# Altium integrated library con-molex.IntLib: 368 symbols (part 6 of 6)

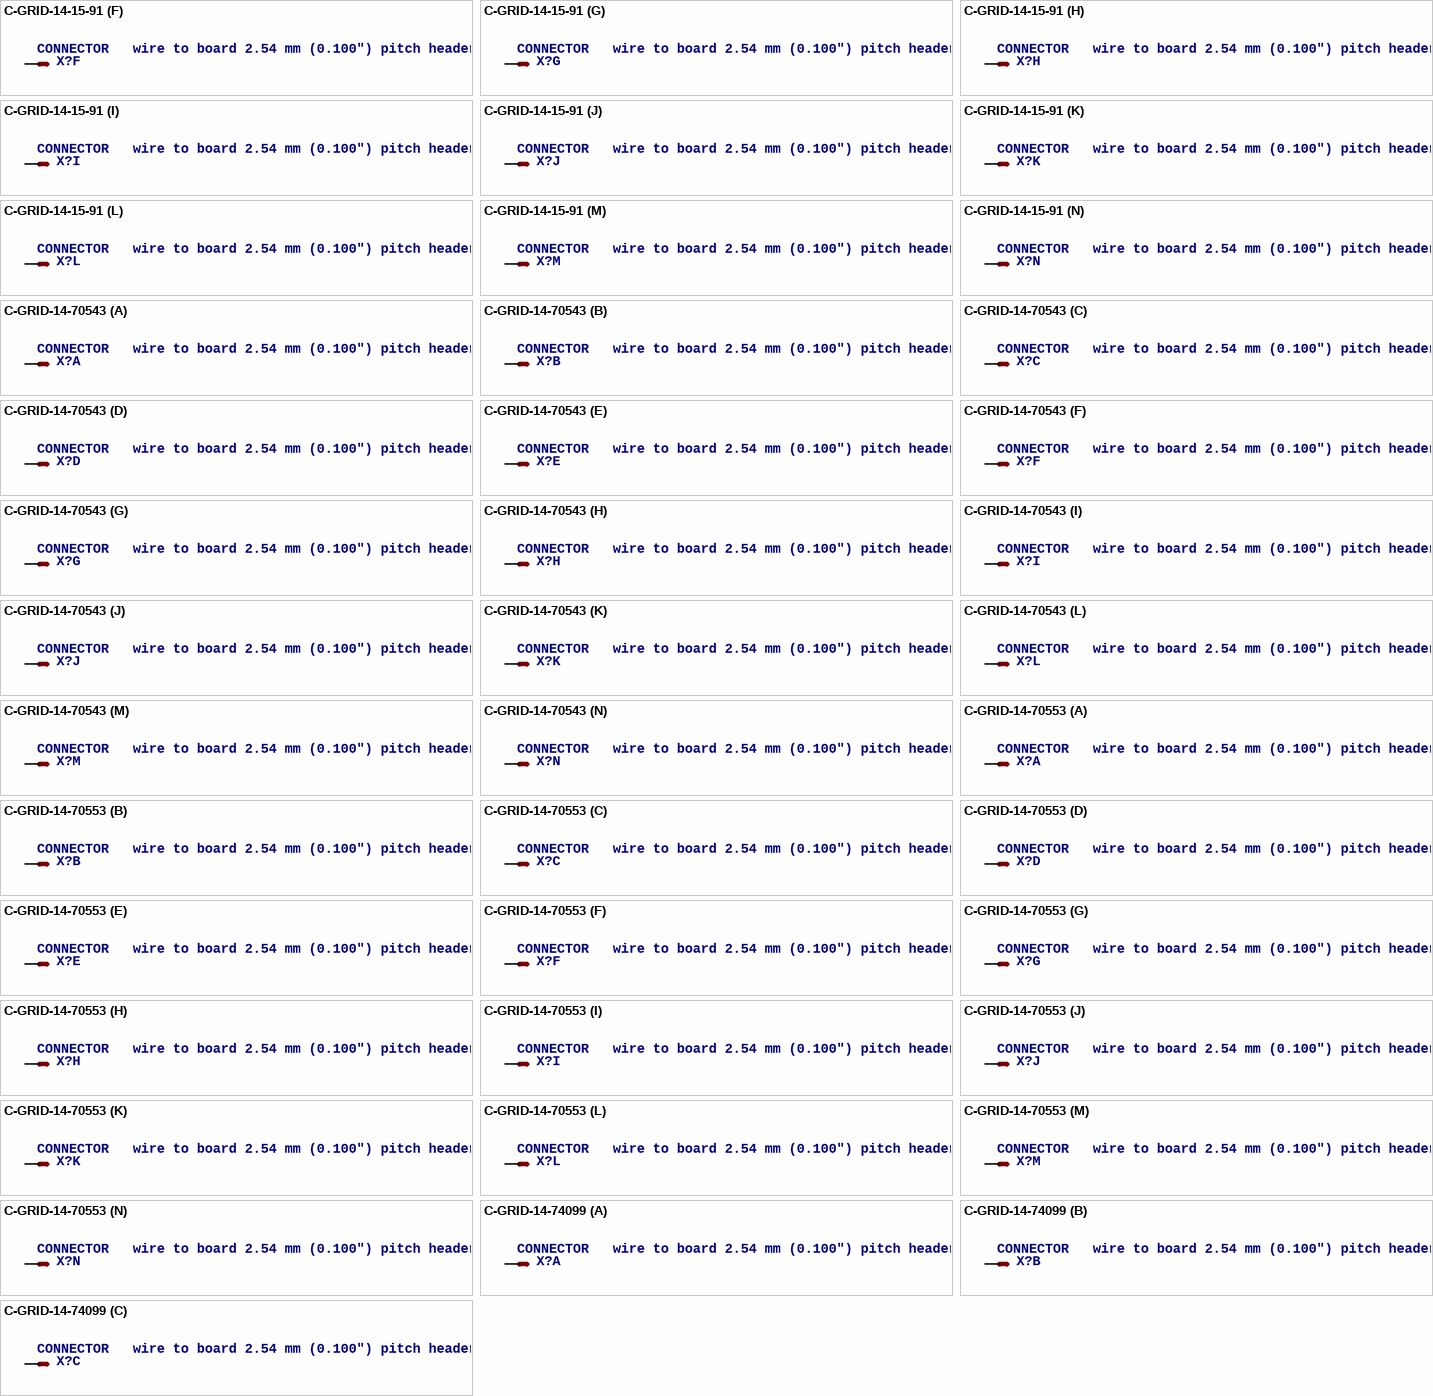
[diagram p115: symbols C-GRID-14-15-91 to C-GRID-14-74099]

## C-GRID-14-15-91
designator X?, comment CONNECTOR   wire to board 2.54 mm (0.100") pitch header
OC_FARNELL: unknown; OC_NEWARK: unknown
footprint 15-91-14
part A pins: 1 S
part B pins: 2 S
part C pins: 3 S
part D pins: 4 S
part E pins: 5 S
part F pins: 6 S
part G pins: 7 S
part H pins: 8 S
part I pins: 9 S
part J pins: 10 S
part K pins: 11 S
part L pins: 12 S
part M pins: 13 S
part N pins: 14 S

## C-GRID-14-70543
designator X?, comment CONNECTOR   wire to board 2.54 mm (0.100") pitch header
OC_FARNELL: unknown; OC_NEWARK: unknown
footprint 70543-14
part A pins: 1 S
part B pins: 2 S
part C pins: 3 S
part D pins: 4 S
part E pins: 5 S
part F pins: 6 S
part G pins: 7 S
part H pins: 8 S
part I pins: 9 S
part J pins: 10 S
part K pins: 11 S
part L pins: 12 S
part M pins: 13 S
part N pins: 14 S

## C-GRID-14-70553
designator X?, comment CONNECTOR   wire to board 2.54 mm (0.100") pitch header
OC_FARNELL: unknown; OC_NEWARK: unknown
footprint 70553-14
part A pins: 1 S
part B pins: 2 S
part C pins: 3 S
part D pins: 4 S
part E pins: 5 S
part F pins: 6 S
part G pins: 7 S
part H pins: 8 S
part I pins: 9 S
part J pins: 10 S
part K pins: 11 S
part L pins: 12 S
part M pins: 13 S
part N pins: 14 S

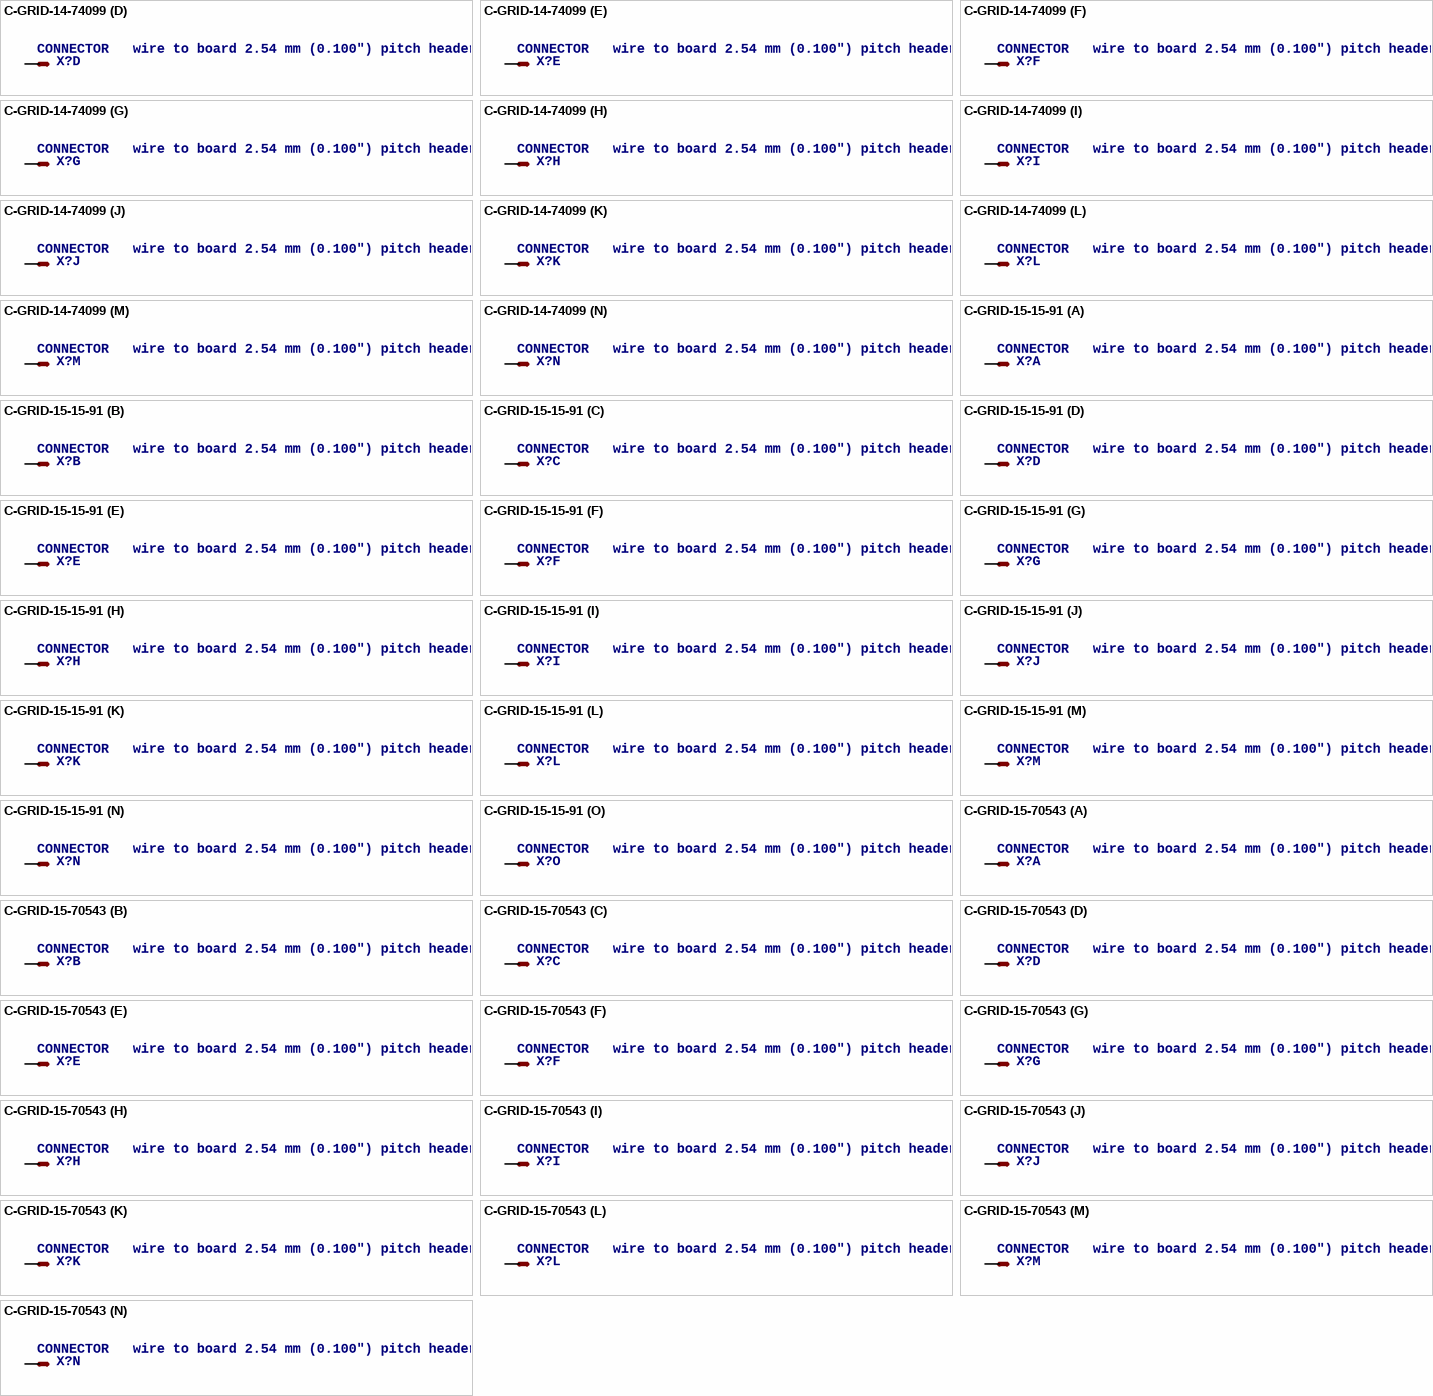
[diagram p116: symbols C-GRID-14-74099 to C-GRID-15-70543]

## C-GRID-14-74099
designator X?, comment CONNECTOR   wire to board 2.54 mm (0.100") pitch header
OC_FARNELL: unknown; OC_NEWARK: unknown
footprint 74099-14
part A pins: 1 S
part B pins: 2 S
part C pins: 3 S
part D pins: 4 S
part E pins: 5 S
part F pins: 6 S
part G pins: 7 S
part H pins: 8 S
part I pins: 9 S
part J pins: 10 S
part K pins: 11 S
part L pins: 12 S
part M pins: 13 S
part N pins: 14 S

## C-GRID-15-15-91
designator X?, comment CONNECTOR   wire to board 2.54 mm (0.100") pitch header
OC_FARNELL: unknown; OC_NEWARK: unknown
footprint 15-91-15
part A pins: 1 S
part B pins: 2 S
part C pins: 3 S
part D pins: 4 S
part E pins: 5 S
part F pins: 6 S
part G pins: 7 S
part H pins: 8 S
part I pins: 9 S
part J pins: 10 S
part K pins: 11 S
part L pins: 12 S
part M pins: 13 S
part N pins: 14 S
part O pins: 15 S

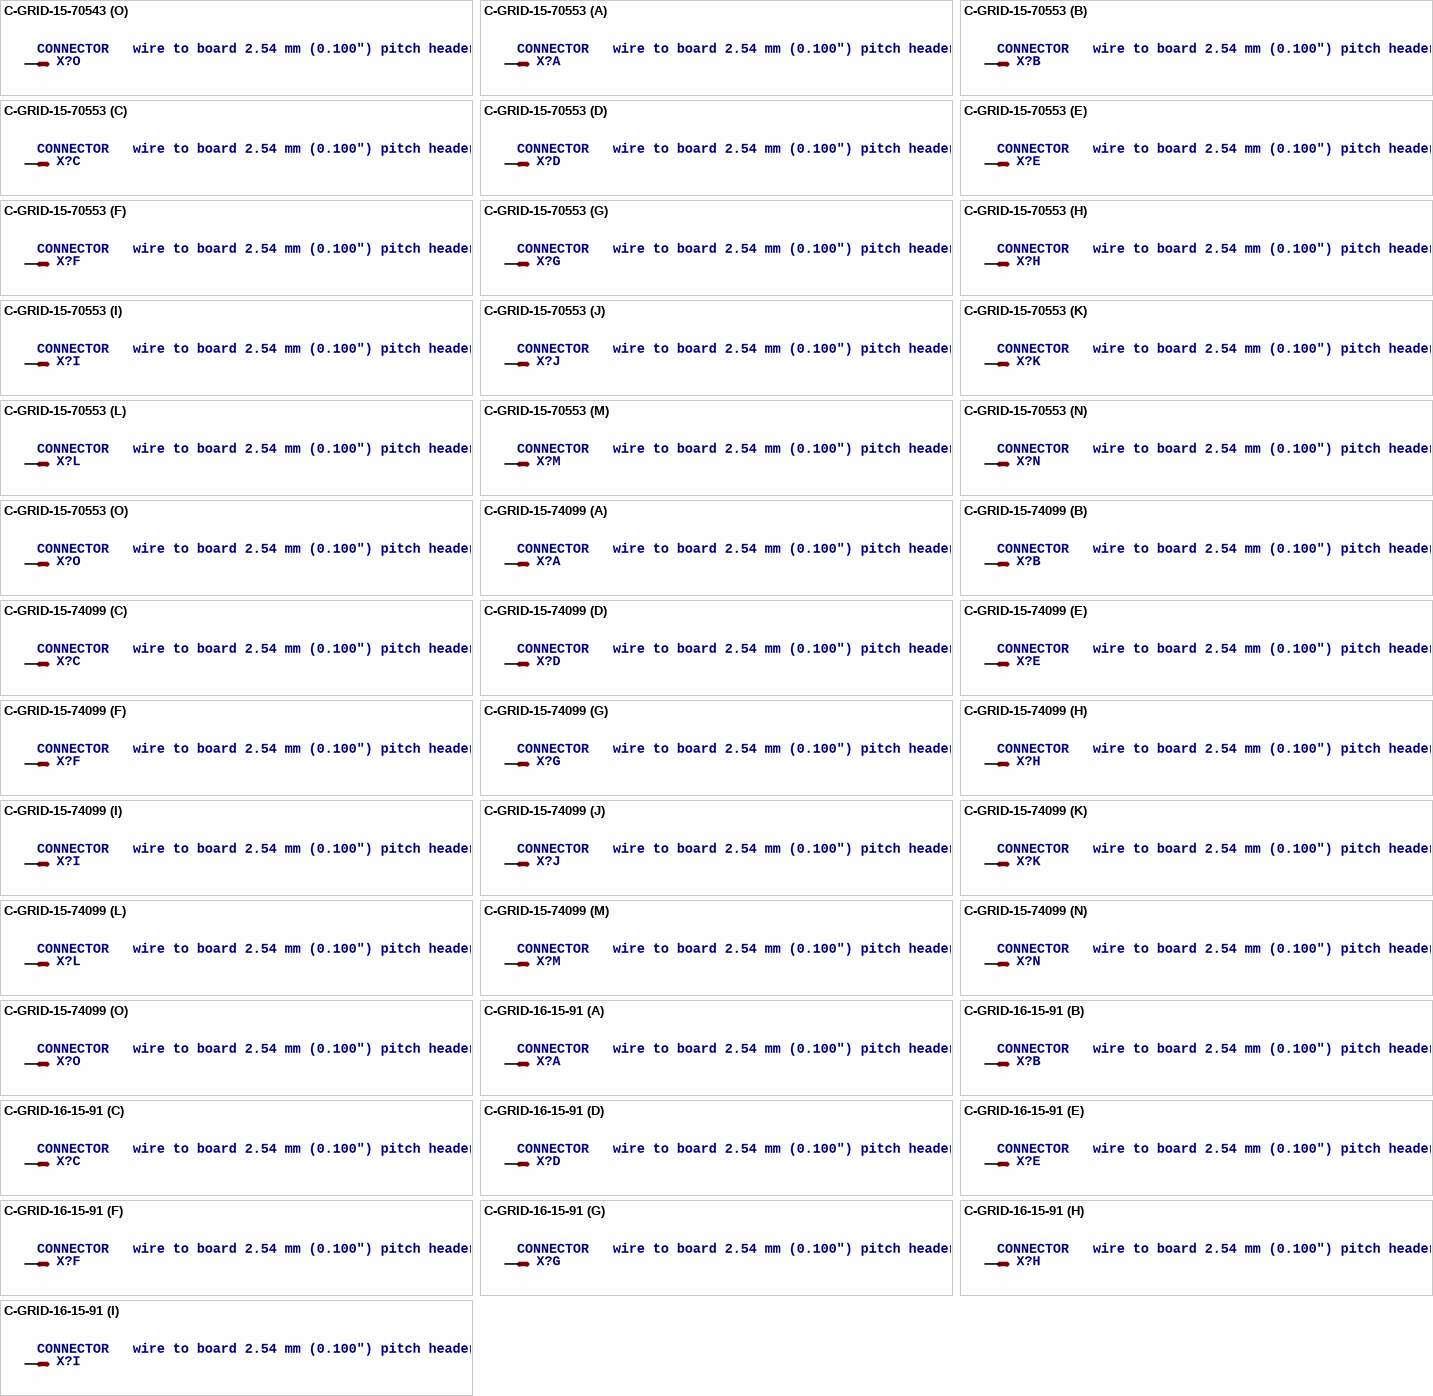
[diagram p117: symbols C-GRID-15-70543 to C-GRID-16-15-91]

## C-GRID-15-70543
designator X?, comment CONNECTOR   wire to board 2.54 mm (0.100") pitch header
OC_FARNELL: unknown; OC_NEWARK: unknown
footprint 70543-15
part A pins: 1 S
part B pins: 2 S
part C pins: 3 S
part D pins: 4 S
part E pins: 5 S
part F pins: 6 S
part G pins: 7 S
part H pins: 8 S
part I pins: 9 S
part J pins: 10 S
part K pins: 11 S
part L pins: 12 S
part M pins: 13 S
part N pins: 14 S
part O pins: 15 S

## C-GRID-15-70553
designator X?, comment CONNECTOR   wire to board 2.54 mm (0.100") pitch header
OC_FARNELL: unknown; OC_NEWARK: unknown
footprint 70553-15
part A pins: 1 S
part B pins: 2 S
part C pins: 3 S
part D pins: 4 S
part E pins: 5 S
part F pins: 6 S
part G pins: 7 S
part H pins: 8 S
part I pins: 9 S
part J pins: 10 S
part K pins: 11 S
part L pins: 12 S
part M pins: 13 S
part N pins: 14 S
part O pins: 15 S

## C-GRID-15-74099
designator X?, comment CONNECTOR   wire to board 2.54 mm (0.100") pitch header
OC_FARNELL: unknown; OC_NEWARK: unknown
footprint 74099-15
part A pins: 1 S
part B pins: 2 S
part C pins: 3 S
part D pins: 4 S
part E pins: 5 S
part F pins: 6 S
part G pins: 7 S
part H pins: 8 S
part I pins: 9 S
part J pins: 10 S
part K pins: 11 S
part L pins: 12 S
part M pins: 13 S
part N pins: 14 S
part O pins: 15 S

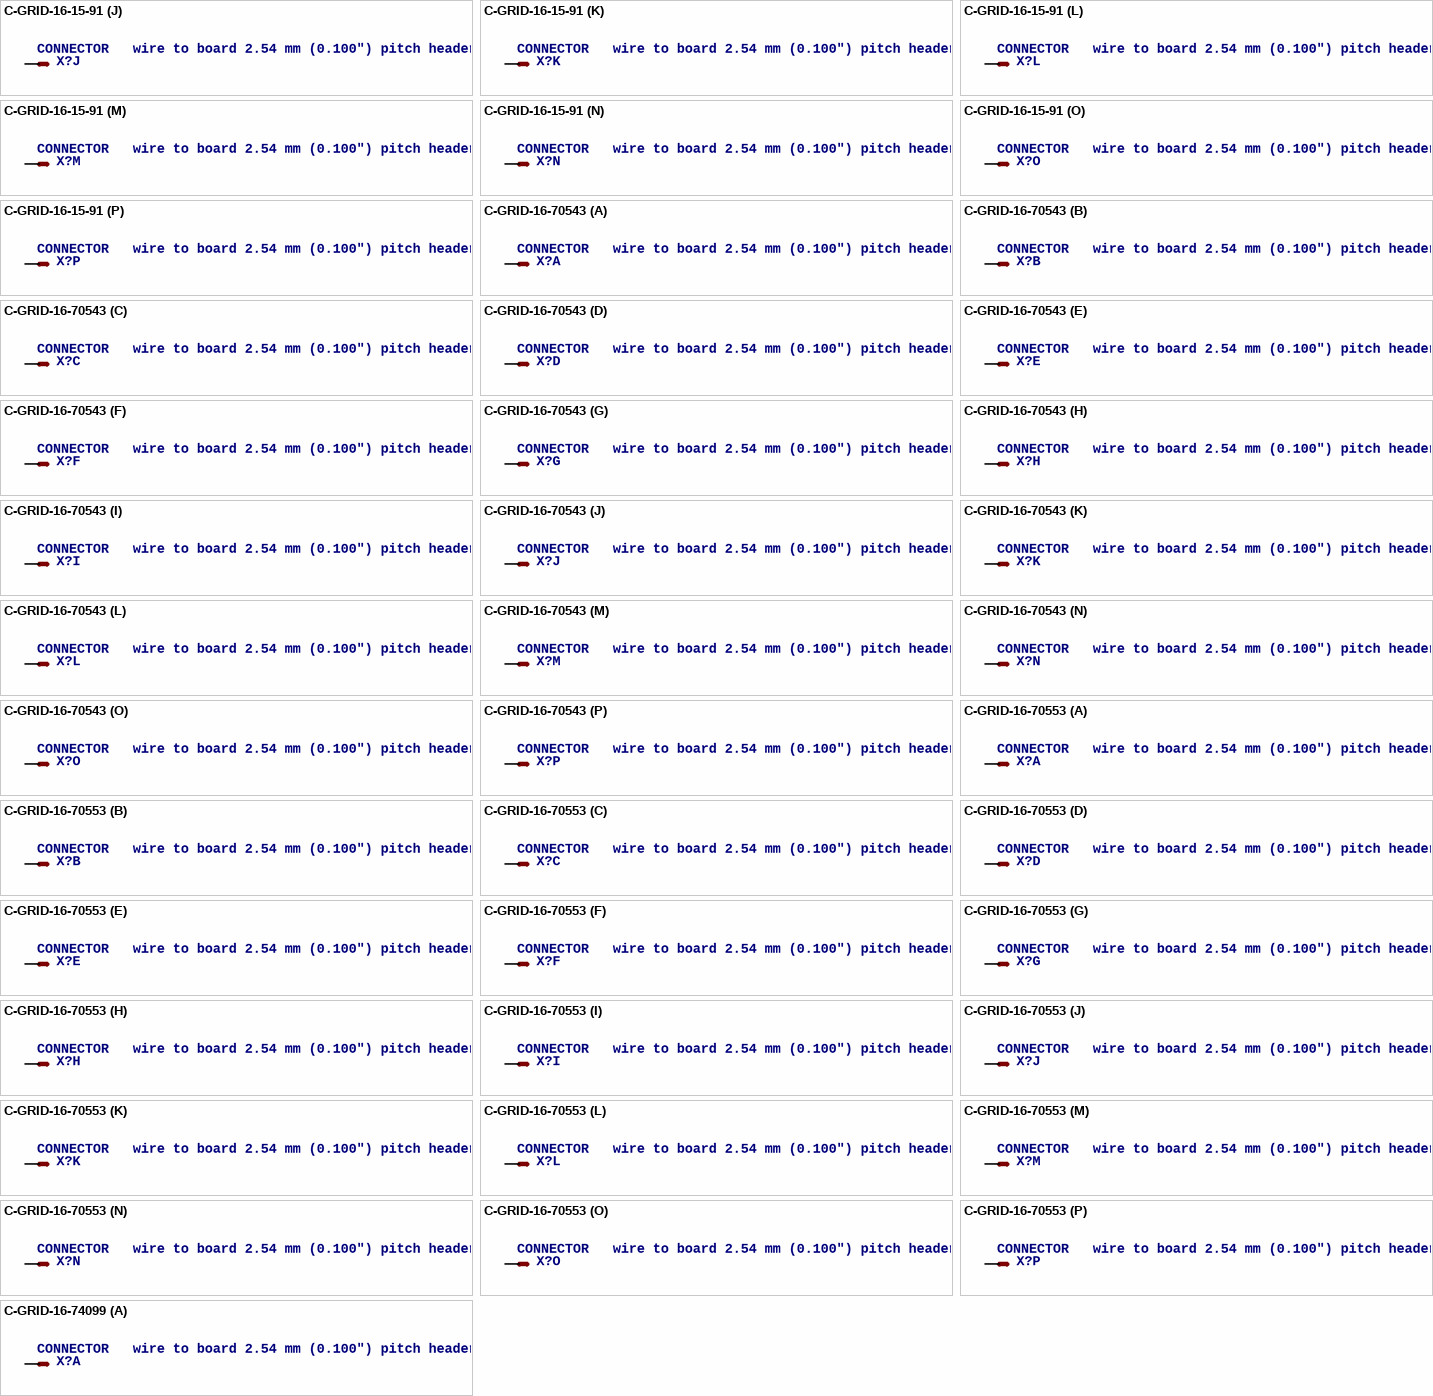
[diagram p118: symbols C-GRID-16-15-91 to C-GRID-16-74099]

## C-GRID-16-15-91
designator X?, comment CONNECTOR   wire to board 2.54 mm (0.100") pitch header
OC_FARNELL: unknown; OC_NEWARK: unknown
footprint 15-91-16
part A pins: 1 S
part B pins: 2 S
part C pins: 3 S
part D pins: 4 S
part E pins: 5 S
part F pins: 6 S
part G pins: 7 S
part H pins: 8 S
part I pins: 9 S
part J pins: 10 S
part K pins: 11 S
part L pins: 12 S
part M pins: 13 S
part N pins: 14 S
part O pins: 15 S
part P pins: 16 S

## C-GRID-16-70543
designator X?, comment CONNECTOR   wire to board 2.54 mm (0.100") pitch header
OC_FARNELL: unknown; OC_NEWARK: unknown
footprint 70543-16
part A pins: 1 S
part B pins: 2 S
part C pins: 3 S
part D pins: 4 S
part E pins: 5 S
part F pins: 6 S
part G pins: 7 S
part H pins: 8 S
part I pins: 9 S
part J pins: 10 S
part K pins: 11 S
part L pins: 12 S
part M pins: 13 S
part N pins: 14 S
part O pins: 15 S
part P pins: 16 S

## C-GRID-16-70553
designator X?, comment CONNECTOR   wire to board 2.54 mm (0.100") pitch header
OC_FARNELL: unknown; OC_NEWARK: unknown
footprint 70553-16
part A pins: 1 S
part B pins: 2 S
part C pins: 3 S
part D pins: 4 S
part E pins: 5 S
part F pins: 6 S
part G pins: 7 S
part H pins: 8 S
part I pins: 9 S
part J pins: 10 S
part K pins: 11 S
part L pins: 12 S
part M pins: 13 S
part N pins: 14 S
part O pins: 15 S
part P pins: 16 S

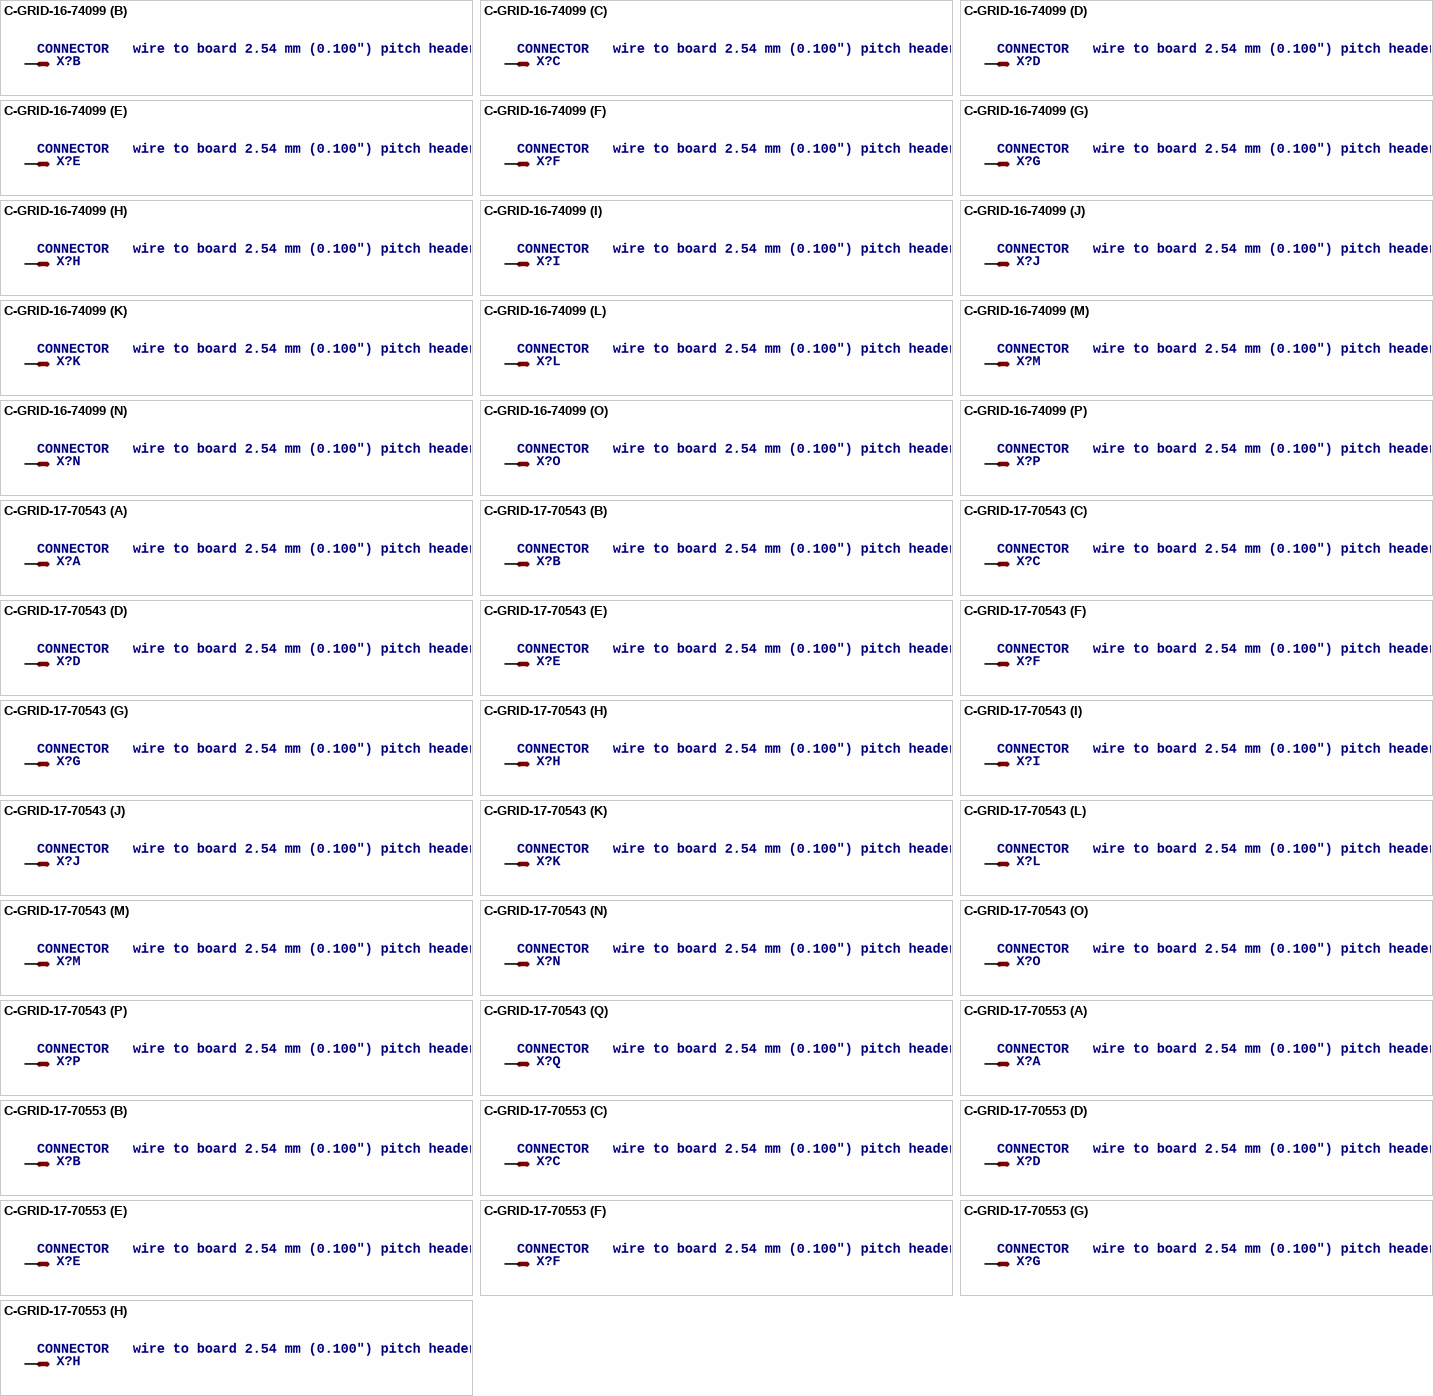
[diagram p119: symbols C-GRID-16-74099 to C-GRID-17-70553]

## C-GRID-16-74099
designator X?, comment CONNECTOR   wire to board 2.54 mm (0.100") pitch header
OC_FARNELL: unknown; OC_NEWARK: unknown
footprint 74099-16
part A pins: 1 S
part B pins: 2 S
part C pins: 3 S
part D pins: 4 S
part E pins: 5 S
part F pins: 6 S
part G pins: 7 S
part H pins: 8 S
part I pins: 9 S
part J pins: 10 S
part K pins: 11 S
part L pins: 12 S
part M pins: 13 S
part N pins: 14 S
part O pins: 15 S
part P pins: 16 S

## C-GRID-17-70543
designator X?, comment CONNECTOR   wire to board 2.54 mm (0.100") pitch header
OC_FARNELL: unknown; OC_NEWARK: unknown
footprint 70543-17
part A pins: 1 S
part B pins: 2 S
part C pins: 3 S
part D pins: 4 S
part E pins: 5 S
part F pins: 6 S
part G pins: 7 S
part H pins: 8 S
part I pins: 9 S
part J pins: 10 S
part K pins: 11 S
part L pins: 12 S
part M pins: 13 S
part N pins: 14 S
part O pins: 15 S
part P pins: 16 S
part Q pins: 17 S

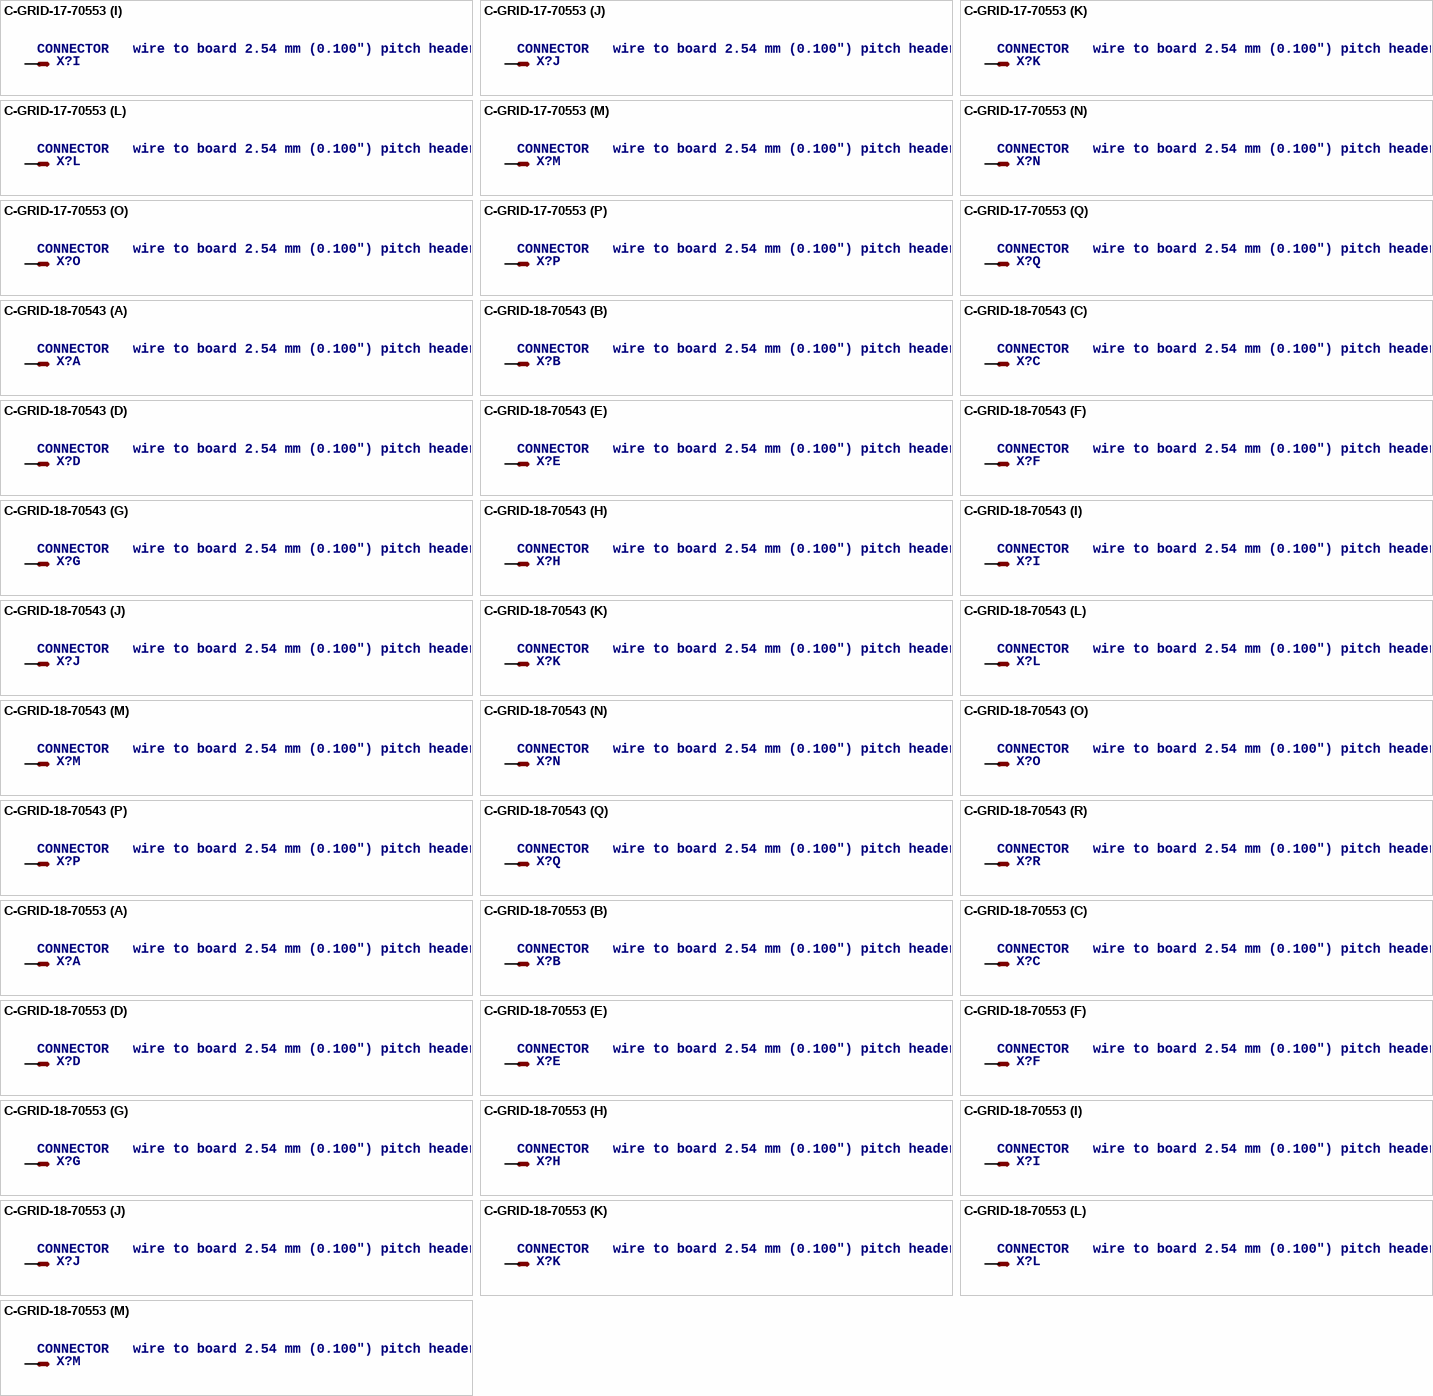
[diagram p120: symbols C-GRID-17-70553 to C-GRID-18-70553]

## C-GRID-17-70553
designator X?, comment CONNECTOR   wire to board 2.54 mm (0.100") pitch header
OC_FARNELL: unknown; OC_NEWARK: unknown
footprint 70553-17
part A pins: 1 S
part B pins: 2 S
part C pins: 3 S
part D pins: 4 S
part E pins: 5 S
part F pins: 6 S
part G pins: 7 S
part H pins: 8 S
part I pins: 9 S
part J pins: 10 S
part K pins: 11 S
part L pins: 12 S
part M pins: 13 S
part N pins: 14 S
part O pins: 15 S
part P pins: 16 S
part Q pins: 17 S

## C-GRID-18-70543
designator X?, comment CONNECTOR   wire to board 2.54 mm (0.100") pitch header
OC_FARNELL: unknown; OC_NEWARK: unknown
footprint 70543-18
part A pins: 1 S
part B pins: 2 S
part C pins: 3 S
part D pins: 4 S
part E pins: 5 S
part F pins: 6 S
part G pins: 7 S
part H pins: 8 S
part I pins: 9 S
part J pins: 10 S
part K pins: 11 S
part L pins: 12 S
part M pins: 13 S
part N pins: 14 S
part O pins: 15 S
part P pins: 16 S
part Q pins: 17 S
part R pins: 18 S

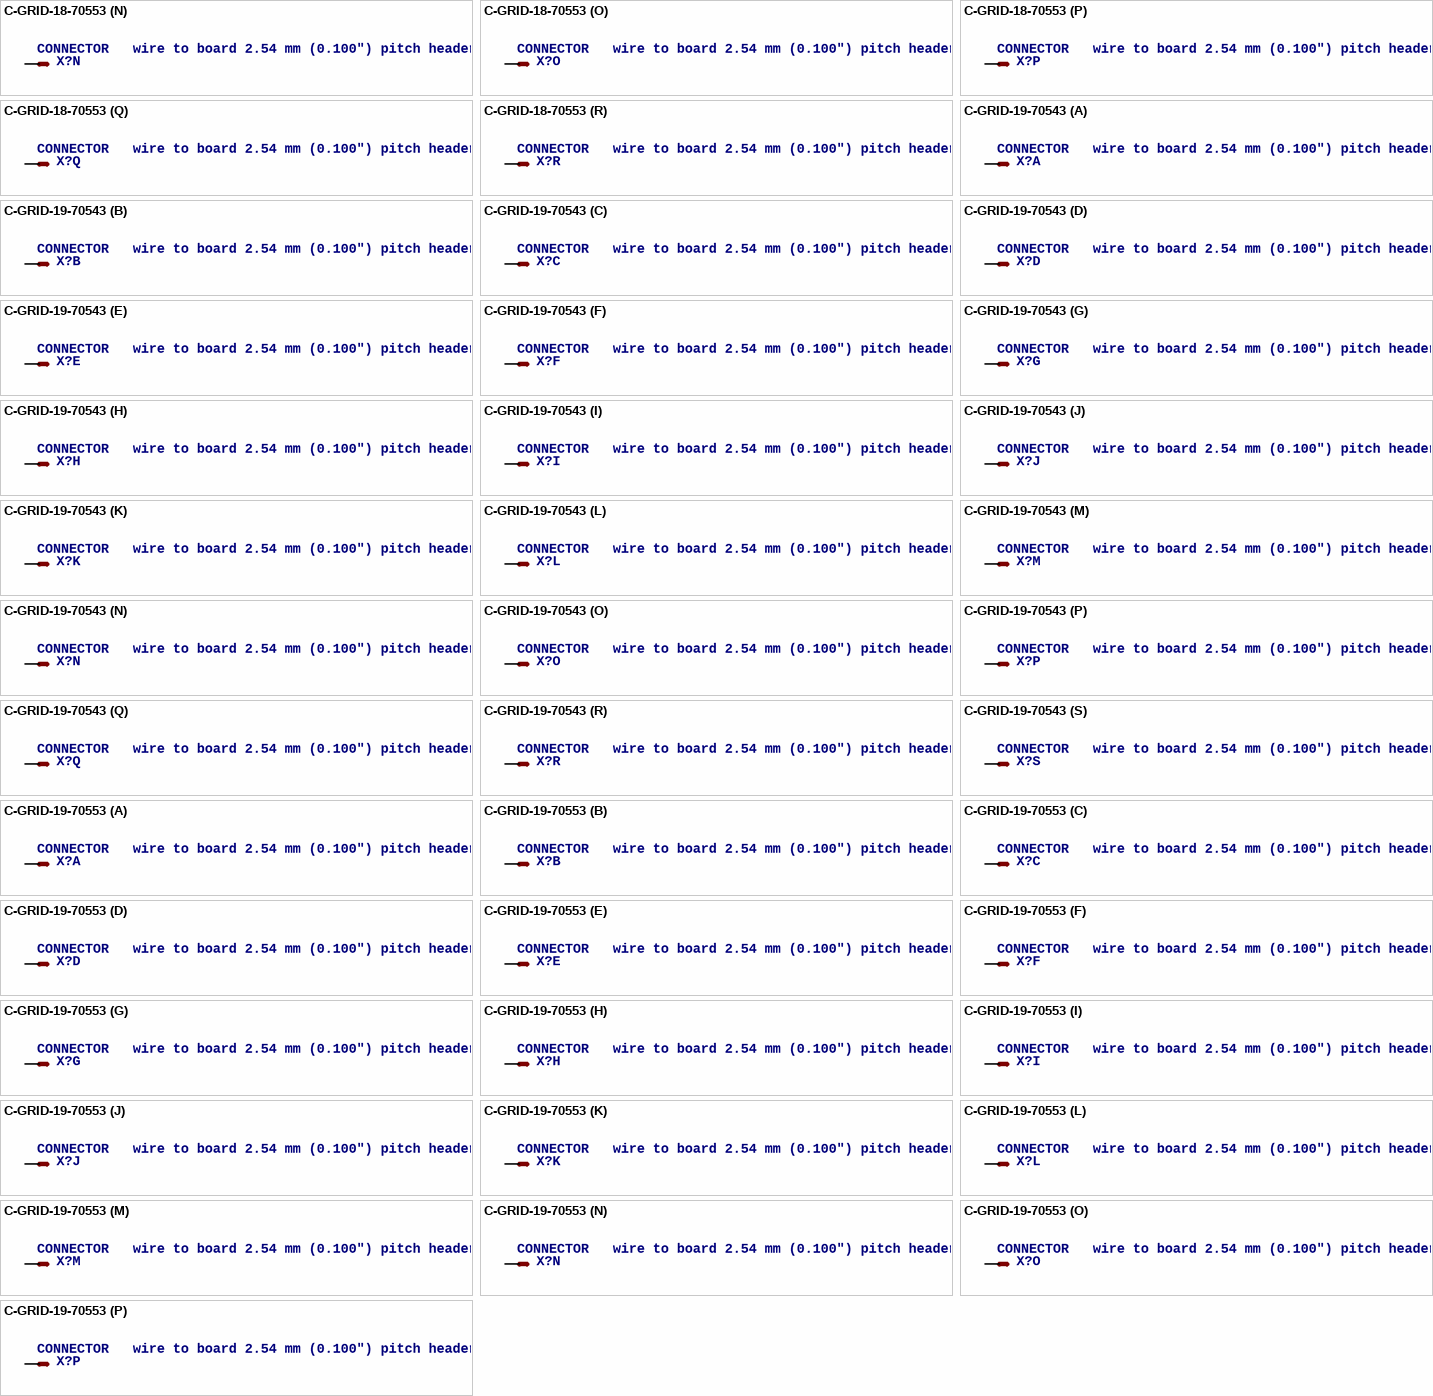
[diagram p121: symbols C-GRID-18-70553 to C-GRID-19-70553]

## C-GRID-18-70553
designator X?, comment CONNECTOR   wire to board 2.54 mm (0.100") pitch header
OC_FARNELL: unknown; OC_NEWARK: unknown
footprint 70553-18
part A pins: 1 S
part B pins: 2 S
part C pins: 3 S
part D pins: 4 S
part E pins: 5 S
part F pins: 6 S
part G pins: 7 S
part H pins: 8 S
part I pins: 9 S
part J pins: 10 S
part K pins: 11 S
part L pins: 12 S
part M pins: 13 S
part N pins: 14 S
part O pins: 15 S
part P pins: 16 S
part Q pins: 17 S
part R pins: 18 S

## C-GRID-19-70543
designator X?, comment CONNECTOR   wire to board 2.54 mm (0.100") pitch header
OC_FARNELL: unknown; OC_NEWARK: unknown
footprint 70543-19
part A pins: 1 S
part B pins: 2 S
part C pins: 3 S
part D pins: 4 S
part E pins: 5 S
part F pins: 6 S
part G pins: 7 S
part H pins: 8 S
part I pins: 9 S
part J pins: 10 S
part K pins: 11 S
part L pins: 12 S
part M pins: 13 S
part N pins: 14 S
part O pins: 15 S
part P pins: 16 S
part Q pins: 17 S
part R pins: 18 S
part S pins: 19 S

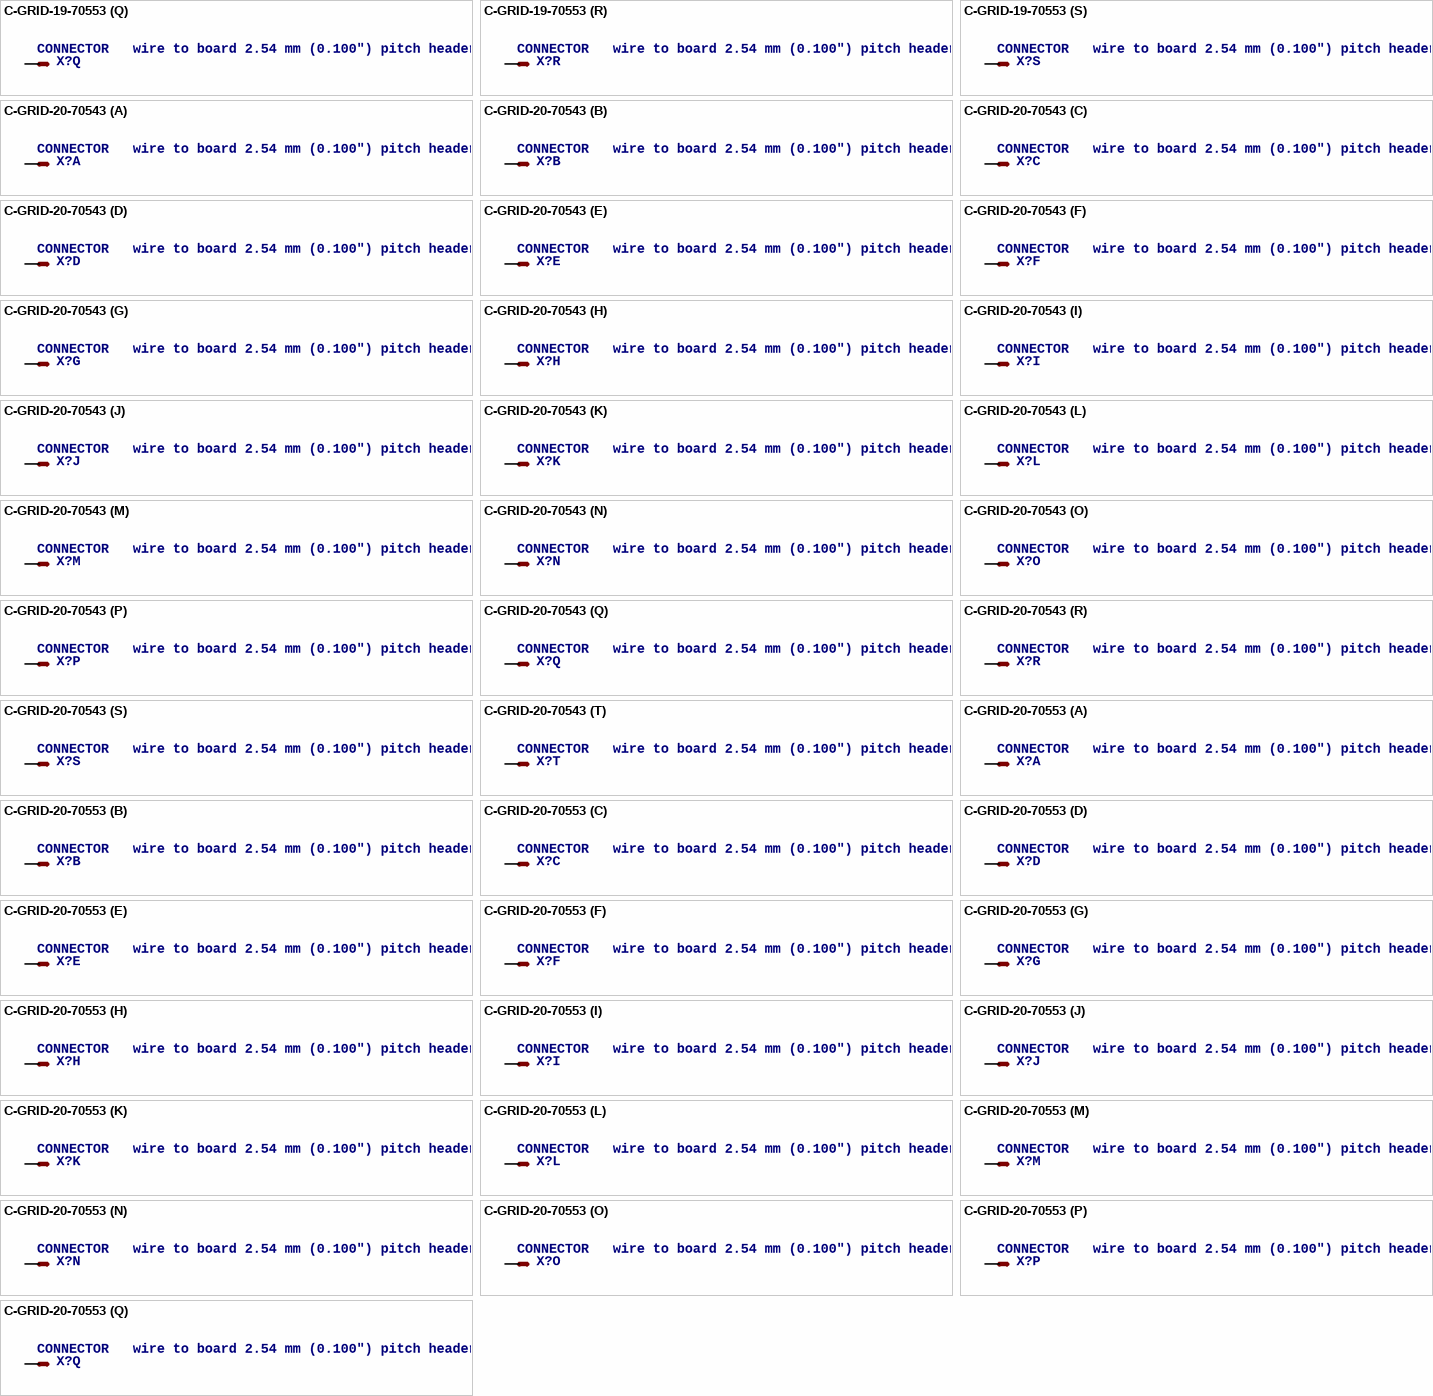
[diagram p122: symbols C-GRID-19-70553 to C-GRID-20-70553]

## C-GRID-19-70553
designator X?, comment CONNECTOR   wire to board 2.54 mm (0.100") pitch header
OC_FARNELL: unknown; OC_NEWARK: unknown
footprint 70553-19
part A pins: 1 S
part B pins: 2 S
part C pins: 3 S
part D pins: 4 S
part E pins: 5 S
part F pins: 6 S
part G pins: 7 S
part H pins: 8 S
part I pins: 9 S
part J pins: 10 S
part K pins: 11 S
part L pins: 12 S
part M pins: 13 S
part N pins: 14 S
part O pins: 15 S
part P pins: 16 S
part Q pins: 17 S
part R pins: 18 S
part S pins: 19 S

## C-GRID-20-70543
designator X?, comment CONNECTOR   wire to board 2.54 mm (0.100") pitch header
OC_FARNELL: unknown; OC_NEWARK: unknown
footprint 70543-20
part A pins: 1 S
part B pins: 2 S
part C pins: 3 S
part D pins: 4 S
part E pins: 5 S
part F pins: 6 S
part G pins: 7 S
part H pins: 8 S
part I pins: 9 S
part J pins: 10 S
part K pins: 11 S
part L pins: 12 S
part M pins: 13 S
part N pins: 14 S
part O pins: 15 S
part P pins: 16 S
part Q pins: 17 S
part R pins: 18 S
part S pins: 19 S
part T pins: 20 S

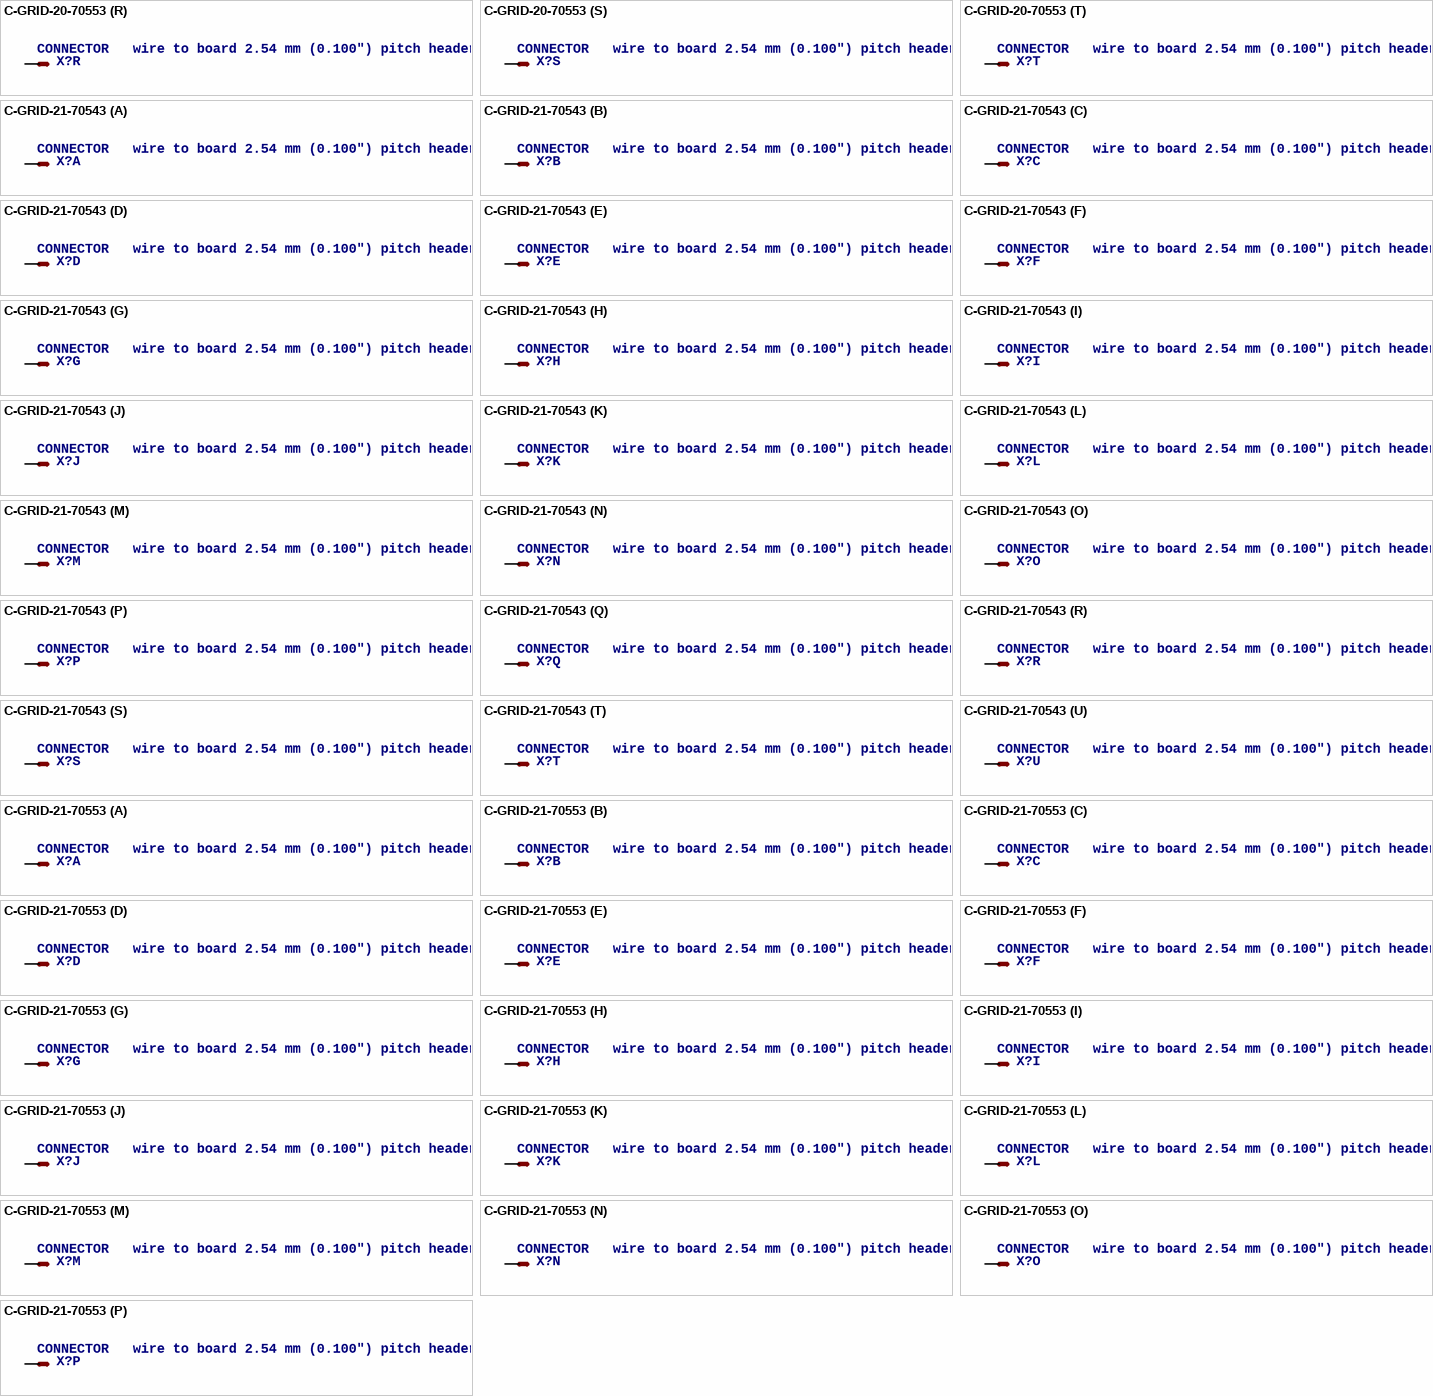
[diagram p123: symbols C-GRID-20-70553 to C-GRID-21-70553]

## C-GRID-20-70553
designator X?, comment CONNECTOR   wire to board 2.54 mm (0.100") pitch header
OC_FARNELL: unknown; OC_NEWARK: unknown
footprint 70553-20
part A pins: 1 S
part B pins: 2 S
part C pins: 3 S
part D pins: 4 S
part E pins: 5 S
part F pins: 6 S
part G pins: 7 S
part H pins: 8 S
part I pins: 9 S
part J pins: 10 S
part K pins: 11 S
part L pins: 12 S
part M pins: 13 S
part N pins: 14 S
part O pins: 15 S
part P pins: 16 S
part Q pins: 17 S
part R pins: 18 S
part S pins: 19 S
part T pins: 20 S

## C-GRID-21-70543
designator X?, comment CONNECTOR   wire to board 2.54 mm (0.100") pitch header
OC_FARNELL: unknown; OC_NEWARK: unknown
footprint 70543-21
part A pins: 1 S
part B pins: 2 S
part C pins: 3 S
part D pins: 4 S
part E pins: 5 S
part F pins: 6 S
part G pins: 7 S
part H pins: 8 S
part I pins: 9 S
part J pins: 10 S
part K pins: 11 S
part L pins: 12 S
part M pins: 13 S
part N pins: 14 S
part O pins: 15 S
part P pins: 16 S
part Q pins: 17 S
part R pins: 18 S
part S pins: 19 S
part T pins: 20 S
part U pins: 21 S

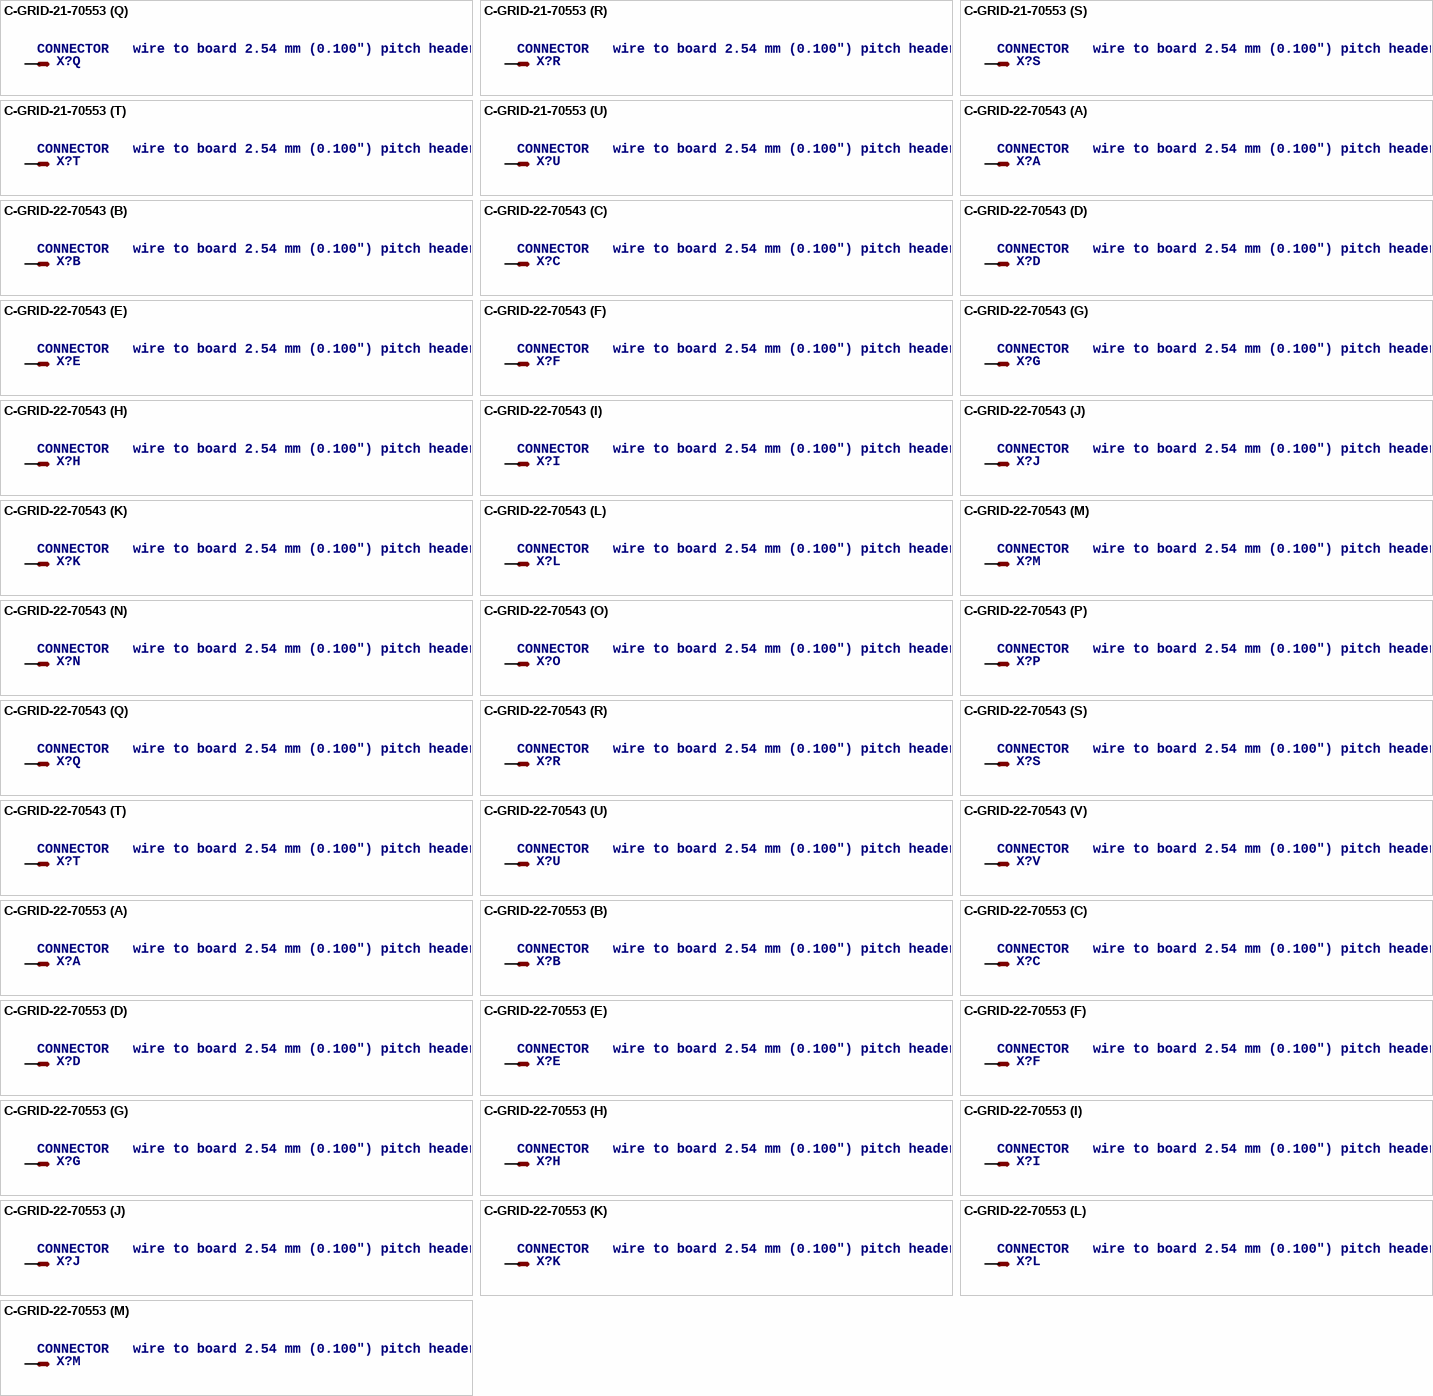
[diagram p124: symbols C-GRID-21-70553 to C-GRID-22-70553]

## C-GRID-21-70553
designator X?, comment CONNECTOR   wire to board 2.54 mm (0.100") pitch header
OC_FARNELL: unknown; OC_NEWARK: unknown
footprint 70553-21
part A pins: 1 S
part B pins: 2 S
part C pins: 3 S
part D pins: 4 S
part E pins: 5 S
part F pins: 6 S
part G pins: 7 S
part H pins: 8 S
part I pins: 9 S
part J pins: 10 S
part K pins: 11 S
part L pins: 12 S
part M pins: 13 S
part N pins: 14 S
part O pins: 15 S
part P pins: 16 S
part Q pins: 17 S
part R pins: 18 S
part S pins: 19 S
part T pins: 20 S
part U pins: 21 S

## C-GRID-22-70543
designator X?, comment CONNECTOR   wire to board 2.54 mm (0.100") pitch header
OC_FARNELL: unknown; OC_NEWARK: unknown
footprint 70543-22
part A pins: 1 S
part B pins: 2 S
part C pins: 3 S
part D pins: 4 S
part E pins: 5 S
part F pins: 6 S
part G pins: 7 S
part H pins: 8 S
part I pins: 9 S
part J pins: 10 S
part K pins: 11 S
part L pins: 12 S
part M pins: 13 S
part N pins: 14 S
part O pins: 15 S
part P pins: 16 S
part Q pins: 17 S
part R pins: 18 S
part S pins: 19 S
part T pins: 20 S
part U pins: 21 S
part V pins: 22 S

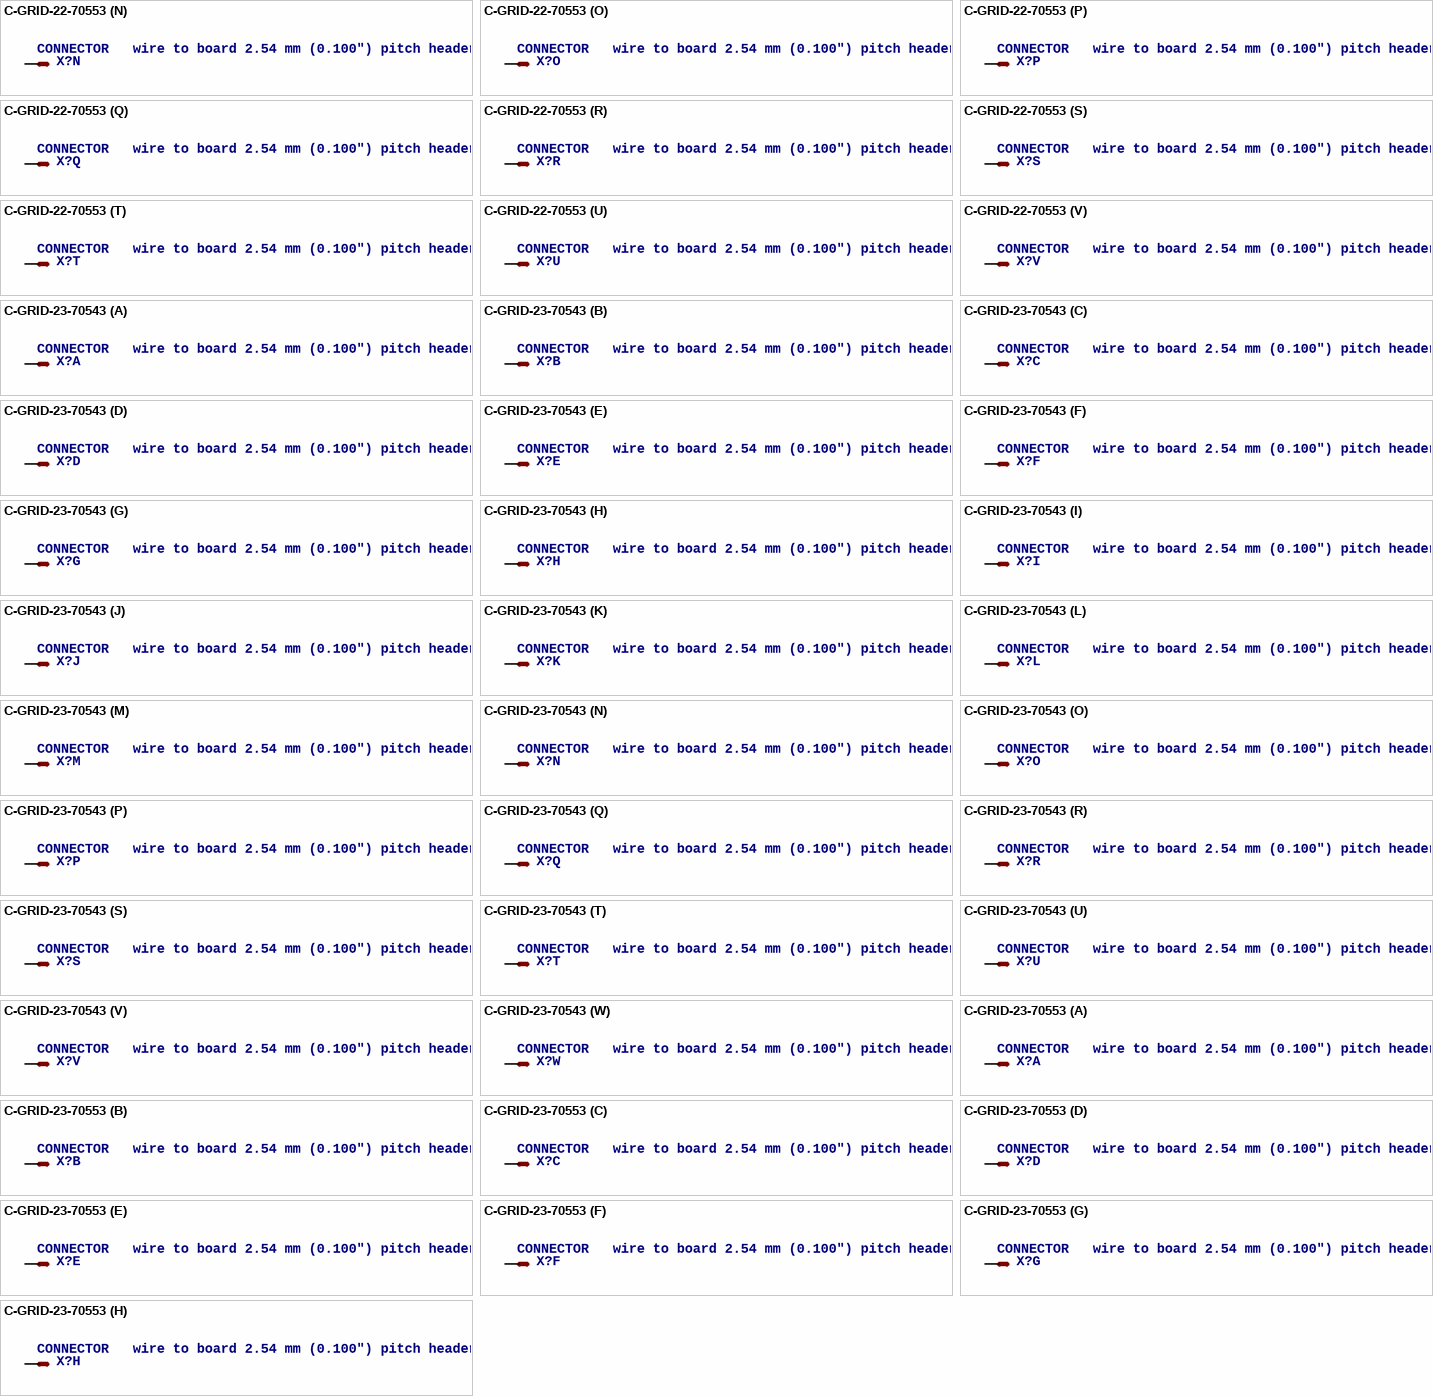
[diagram p125: symbols C-GRID-22-70553 to C-GRID-23-70553]

## C-GRID-22-70553
designator X?, comment CONNECTOR   wire to board 2.54 mm (0.100") pitch header
OC_FARNELL: unknown; OC_NEWARK: unknown
footprint 70553-22
part A pins: 1 S
part B pins: 2 S
part C pins: 3 S
part D pins: 4 S
part E pins: 5 S
part F pins: 6 S
part G pins: 7 S
part H pins: 8 S
part I pins: 9 S
part J pins: 10 S
part K pins: 11 S
part L pins: 12 S
part M pins: 13 S
part N pins: 14 S
part O pins: 15 S
part P pins: 16 S
part Q pins: 17 S
part R pins: 18 S
part S pins: 19 S
part T pins: 20 S
part U pins: 21 S
part V pins: 22 S

## C-GRID-23-70543
designator X?, comment CONNECTOR   wire to board 2.54 mm (0.100") pitch header
OC_FARNELL: unknown; OC_NEWARK: unknown
footprint 70543-23
part A pins: 1 S
part B pins: 2 S
part C pins: 3 S
part D pins: 4 S
part E pins: 5 S
part F pins: 6 S
part G pins: 7 S
part H pins: 8 S
part I pins: 9 S
part J pins: 10 S
part K pins: 11 S
part L pins: 12 S
part M pins: 13 S
part N pins: 14 S
part O pins: 15 S
part P pins: 16 S
part Q pins: 17 S
part R pins: 18 S
part S pins: 19 S
part T pins: 20 S
part U pins: 21 S
part V pins: 22 S
part W pins: 23 S

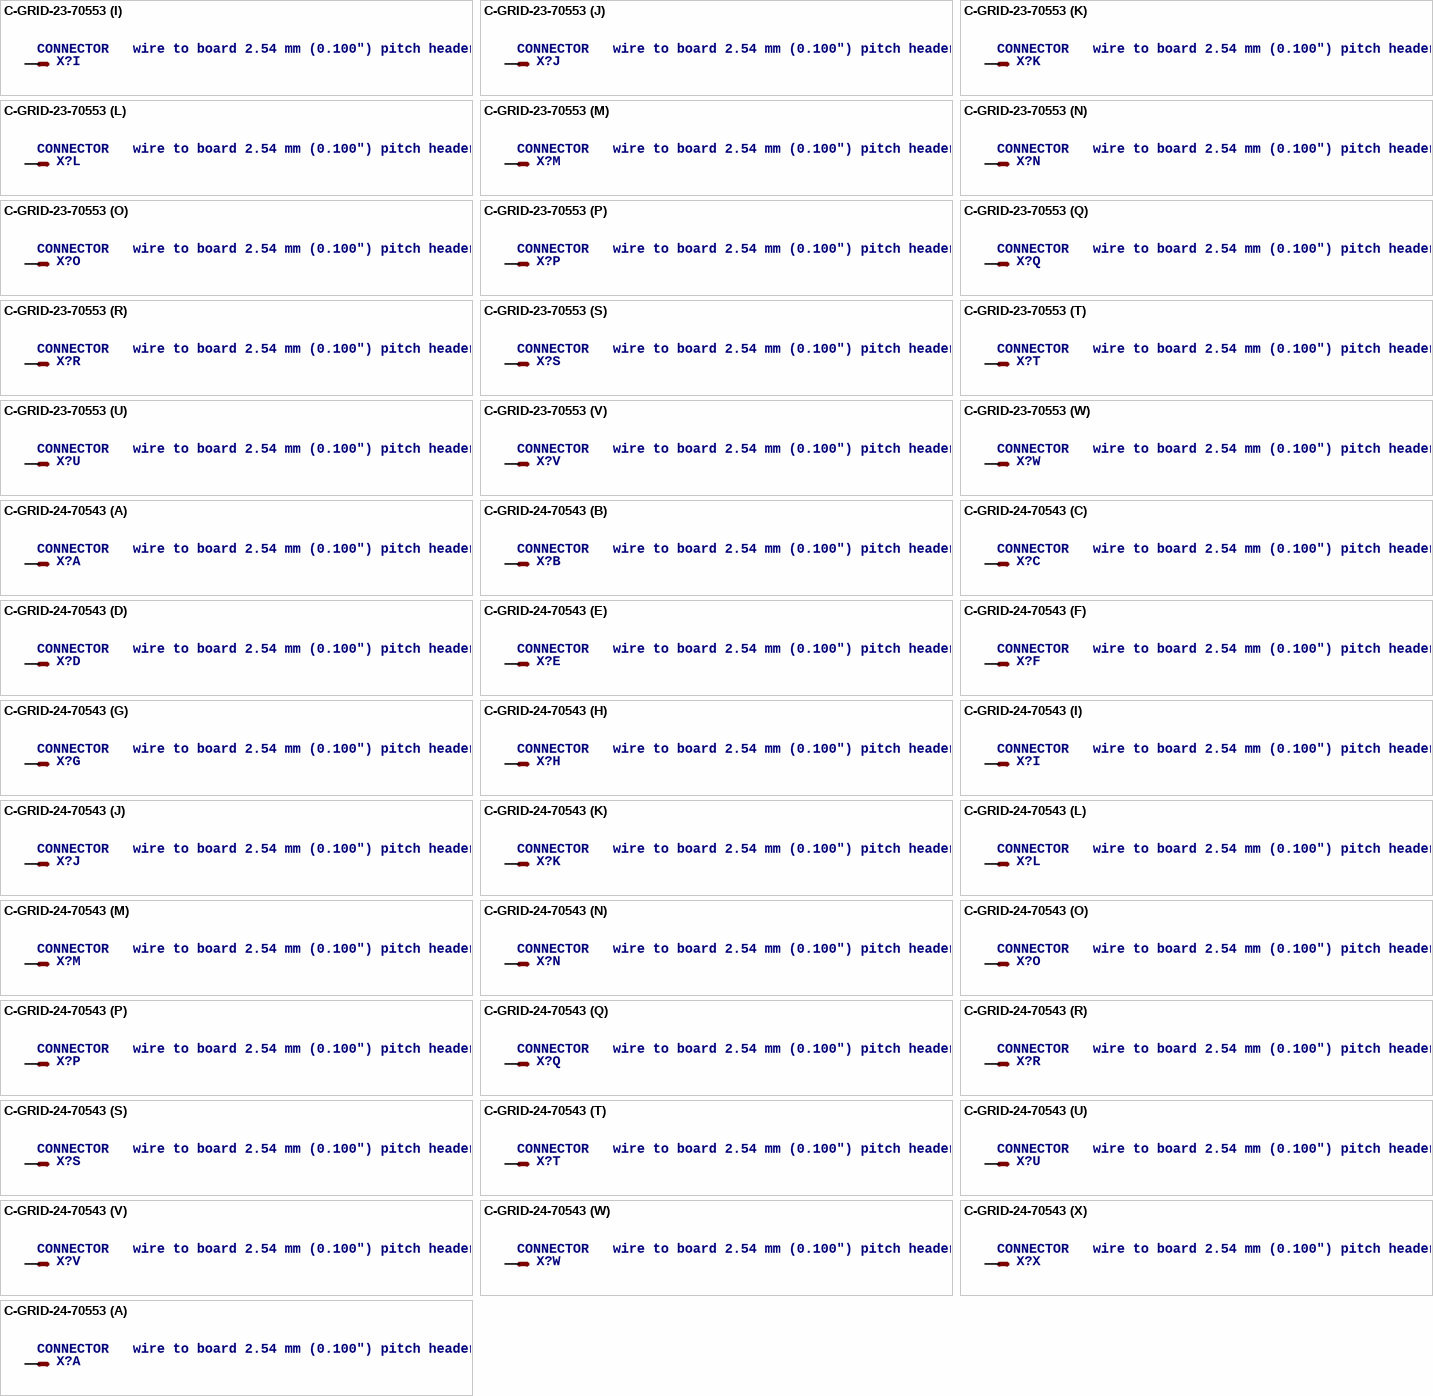
[diagram p126: symbols C-GRID-23-70553 to C-GRID-24-70553]

## C-GRID-23-70553
designator X?, comment CONNECTOR   wire to board 2.54 mm (0.100") pitch header
OC_FARNELL: unknown; OC_NEWARK: unknown
footprint 70553-23
part A pins: 1 S
part B pins: 2 S
part C pins: 3 S
part D pins: 4 S
part E pins: 5 S
part F pins: 6 S
part G pins: 7 S
part H pins: 8 S
part I pins: 9 S
part J pins: 10 S
part K pins: 11 S
part L pins: 12 S
part M pins: 13 S
part N pins: 14 S
part O pins: 15 S
part P pins: 16 S
part Q pins: 17 S
part R pins: 18 S
part S pins: 19 S
part T pins: 20 S
part U pins: 21 S
part V pins: 22 S
part W pins: 23 S

## C-GRID-24-70543
designator X?, comment CONNECTOR   wire to board 2.54 mm (0.100") pitch header
OC_FARNELL: unknown; OC_NEWARK: unknown
footprint 70543-24
part A pins: 1 S
part B pins: 2 S
part C pins: 3 S
part D pins: 4 S
part E pins: 5 S
part F pins: 6 S
part G pins: 7 S
part H pins: 8 S
part I pins: 9 S
part J pins: 10 S
part K pins: 11 S
part L pins: 12 S
part M pins: 13 S
part N pins: 14 S
part O pins: 15 S
part P pins: 16 S
part Q pins: 17 S
part R pins: 18 S
part S pins: 19 S
part T pins: 20 S
part U pins: 21 S
part V pins: 22 S
part W pins: 23 S
part X pins: 24 S

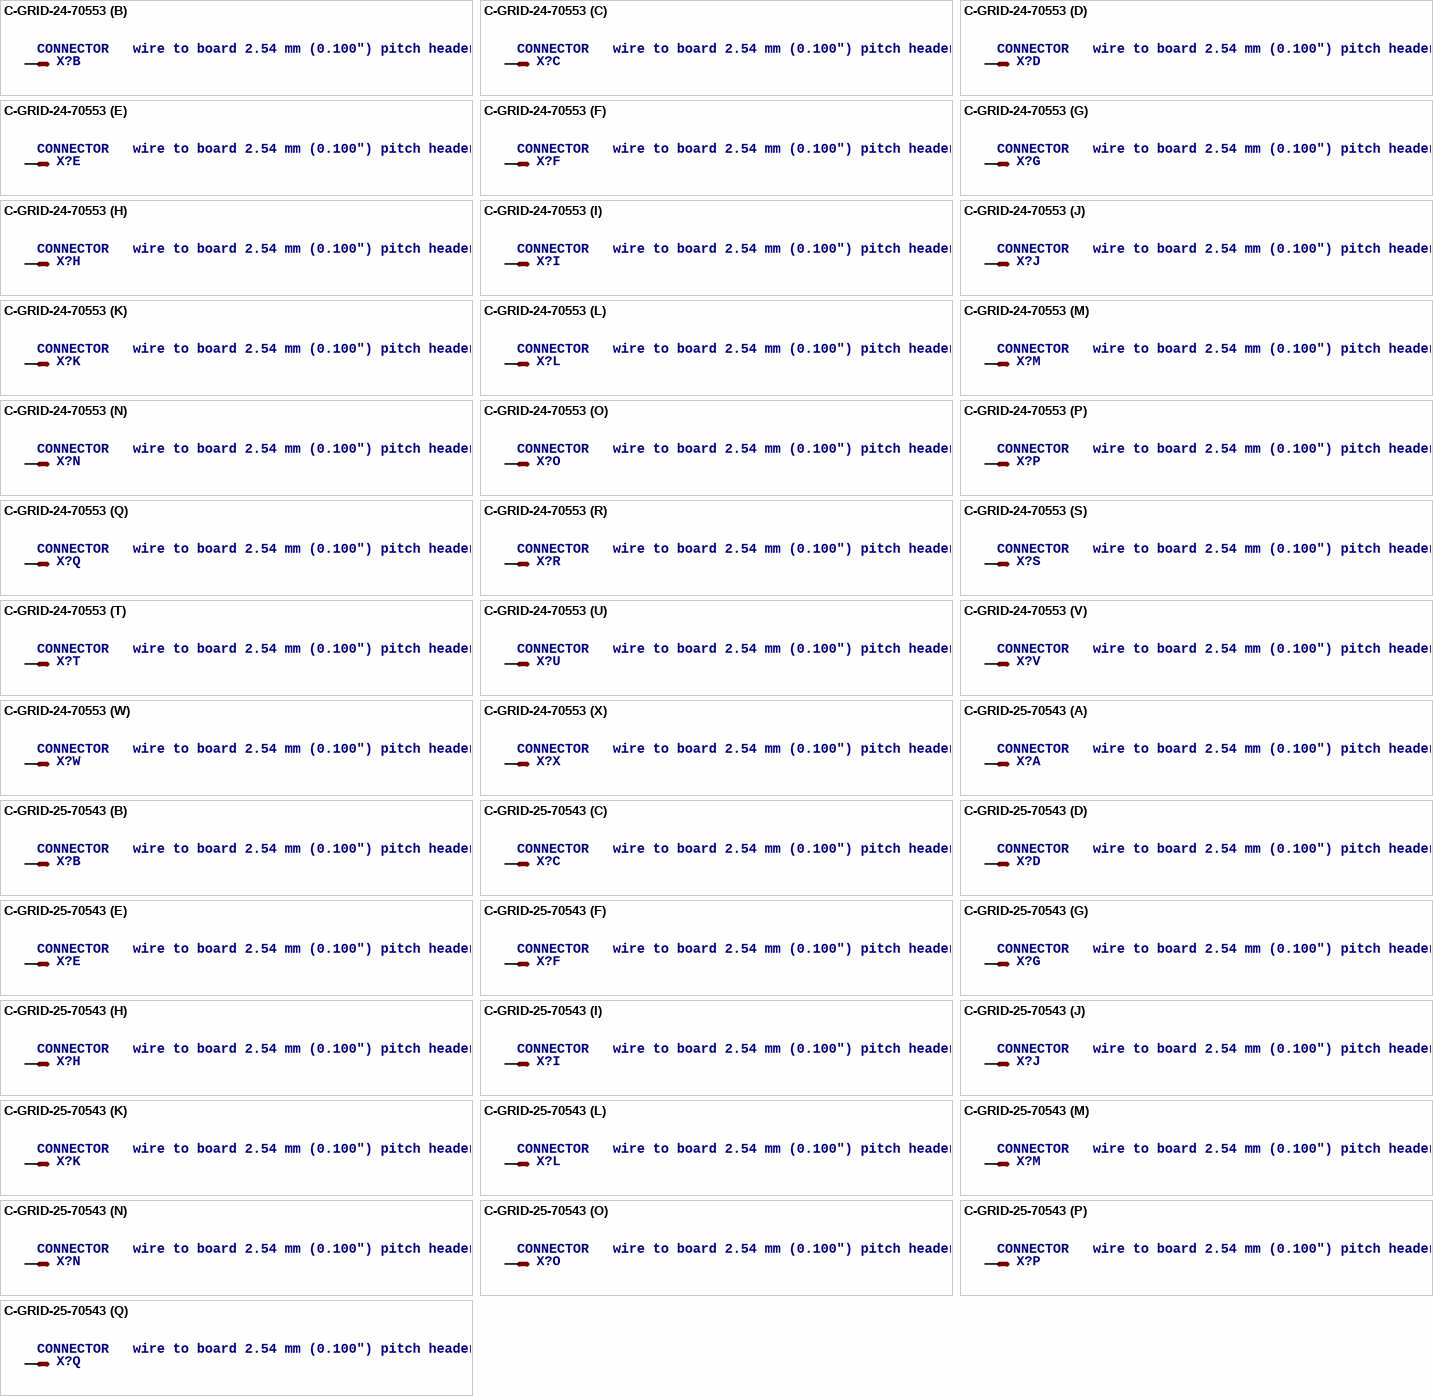
[diagram p127: symbols C-GRID-24-70553 to C-GRID-25-70543]

## C-GRID-24-70553
designator X?, comment CONNECTOR   wire to board 2.54 mm (0.100") pitch header
OC_FARNELL: unknown; OC_NEWARK: unknown
footprint 70553-24
part A pins: 1 S
part B pins: 2 S
part C pins: 3 S
part D pins: 4 S
part E pins: 5 S
part F pins: 6 S
part G pins: 7 S
part H pins: 8 S
part I pins: 9 S
part J pins: 10 S
part K pins: 11 S
part L pins: 12 S
part M pins: 13 S
part N pins: 14 S
part O pins: 15 S
part P pins: 16 S
part Q pins: 17 S
part R pins: 18 S
part S pins: 19 S
part T pins: 20 S
part U pins: 21 S
part V pins: 22 S
part W pins: 23 S
part X pins: 24 S

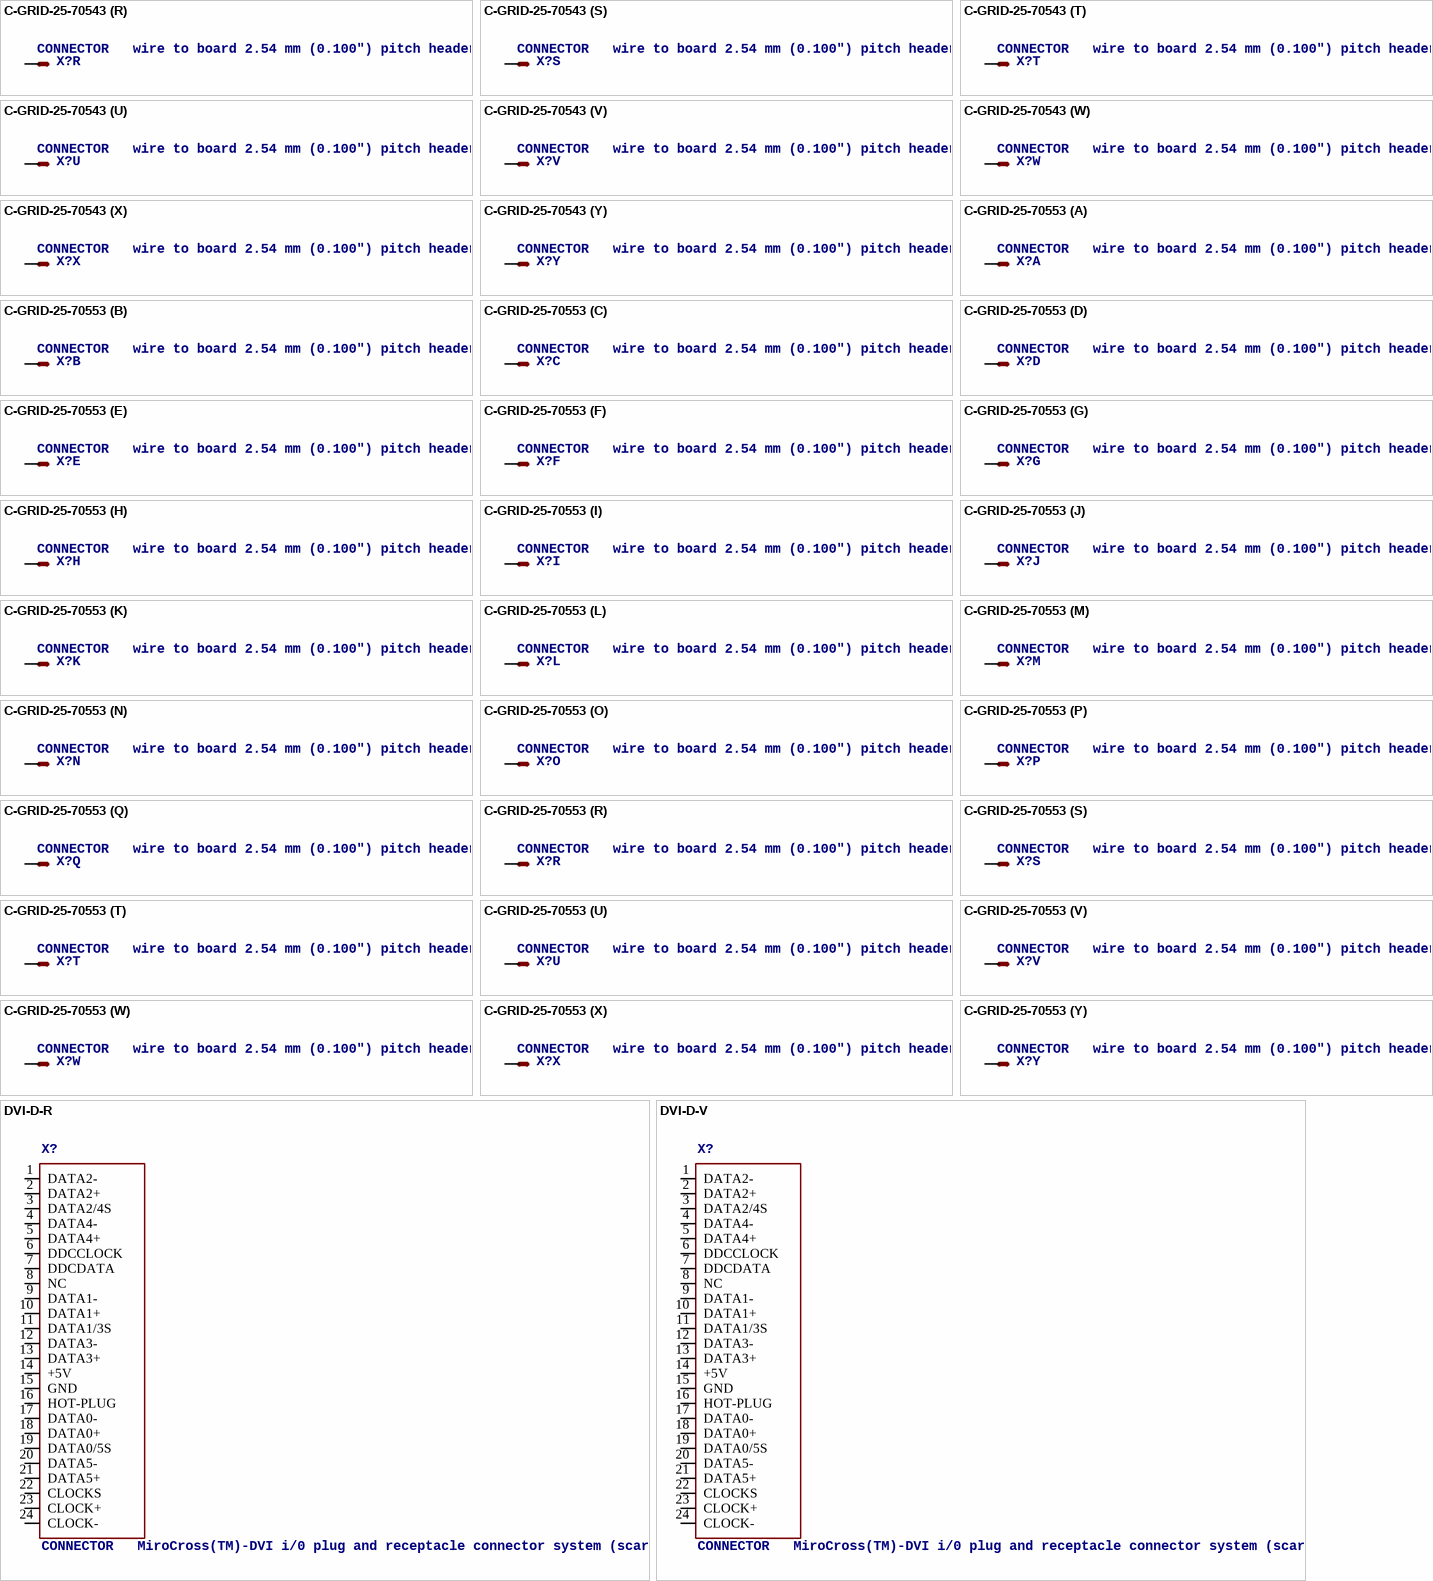
[diagram p128: symbols C-GRID-25-70543 to DVI-D-V]

## C-GRID-25-70543
designator X?, comment CONNECTOR   wire to board 2.54 mm (0.100") pitch header
OC_FARNELL: unknown; OC_NEWARK: unknown
footprint 70543-25
part A pins: 1 S
part B pins: 2 S
part C pins: 3 S
part D pins: 4 S
part E pins: 5 S
part F pins: 6 S
part G pins: 7 S
part H pins: 8 S
part I pins: 9 S
part J pins: 10 S
part K pins: 11 S
part L pins: 12 S
part M pins: 13 S
part N pins: 14 S
part O pins: 15 S
part P pins: 16 S
part Q pins: 17 S
part R pins: 18 S
part S pins: 19 S
part T pins: 20 S
part U pins: 21 S
part V pins: 22 S
part W pins: 23 S
part X pins: 24 S
part Y pins: 25 S

## C-GRID-25-70553
designator X?, comment CONNECTOR   wire to board 2.54 mm (0.100") pitch header
OC_FARNELL: unknown; OC_NEWARK: unknown
footprint 70553-25
part A pins: 1 S
part B pins: 2 S
part C pins: 3 S
part D pins: 4 S
part E pins: 5 S
part F pins: 6 S
part G pins: 7 S
part H pins: 8 S
part I pins: 9 S
part J pins: 10 S
part K pins: 11 S
part L pins: 12 S
part M pins: 13 S
part N pins: 14 S
part O pins: 15 S
part P pins: 16 S
part Q pins: 17 S
part R pins: 18 S
part S pins: 19 S
part T pins: 20 S
part U pins: 21 S
part V pins: 22 S
part W pins: 23 S
part X pins: 24 S
part Y pins: 25 S

## DVI-D-R
designator X?, comment CONNECTOR   MiroCross(TM)-DVI i/0 plug and receptacle connector system (scart)
OC_FARNELL: unknown; OC_NEWARK: unknown
footprint DVI-D-R
pins: 1 DATA2-, 2 DATA2+, 3 DATA2/4S, 4 DATA4-, 5 DATA4+, 6 DDCCLOCK, 7 DDCDATA, 8 NC, 9 DATA1-, 10 DATA1+, 11 DATA1/3S, 12 DATA3-, 13 DATA3+, 14 +5V (power), 15 GND (power), 16 HOT-PLUG, 17 DATA0-, 18 DATA0+, 19 DATA0/5S, 20 DATA5-, 21 DATA5+, 22 CLOCKS, 23 CLOCK+, 24 CLOCK-

## DVI-D-V
designator X?, comment CONNECTOR   MiroCross(TM)-DVI i/0 plug and receptacle connector system (scart)
OC_FARNELL: unknown; OC_NEWARK: unknown
footprint DVI-D-V
pins: 1 DATA2-, 2 DATA2+, 3 DATA2/4S, 4 DATA4-, 5 DATA4+, 6 DDCCLOCK, 7 DDCDATA, 8 NC, 9 DATA1-, 10 DATA1+, 11 DATA1/3S, 12 DATA3-, 13 DATA3+, 14 +5V (power), 15 GND (power), 16 HOT-PLUG, 17 DATA0-, 18 DATA0+, 19 DATA0/5S, 20 DATA5-, 21 DATA5+, 22 CLOCKS, 23 CLOCK+, 24 CLOCK-

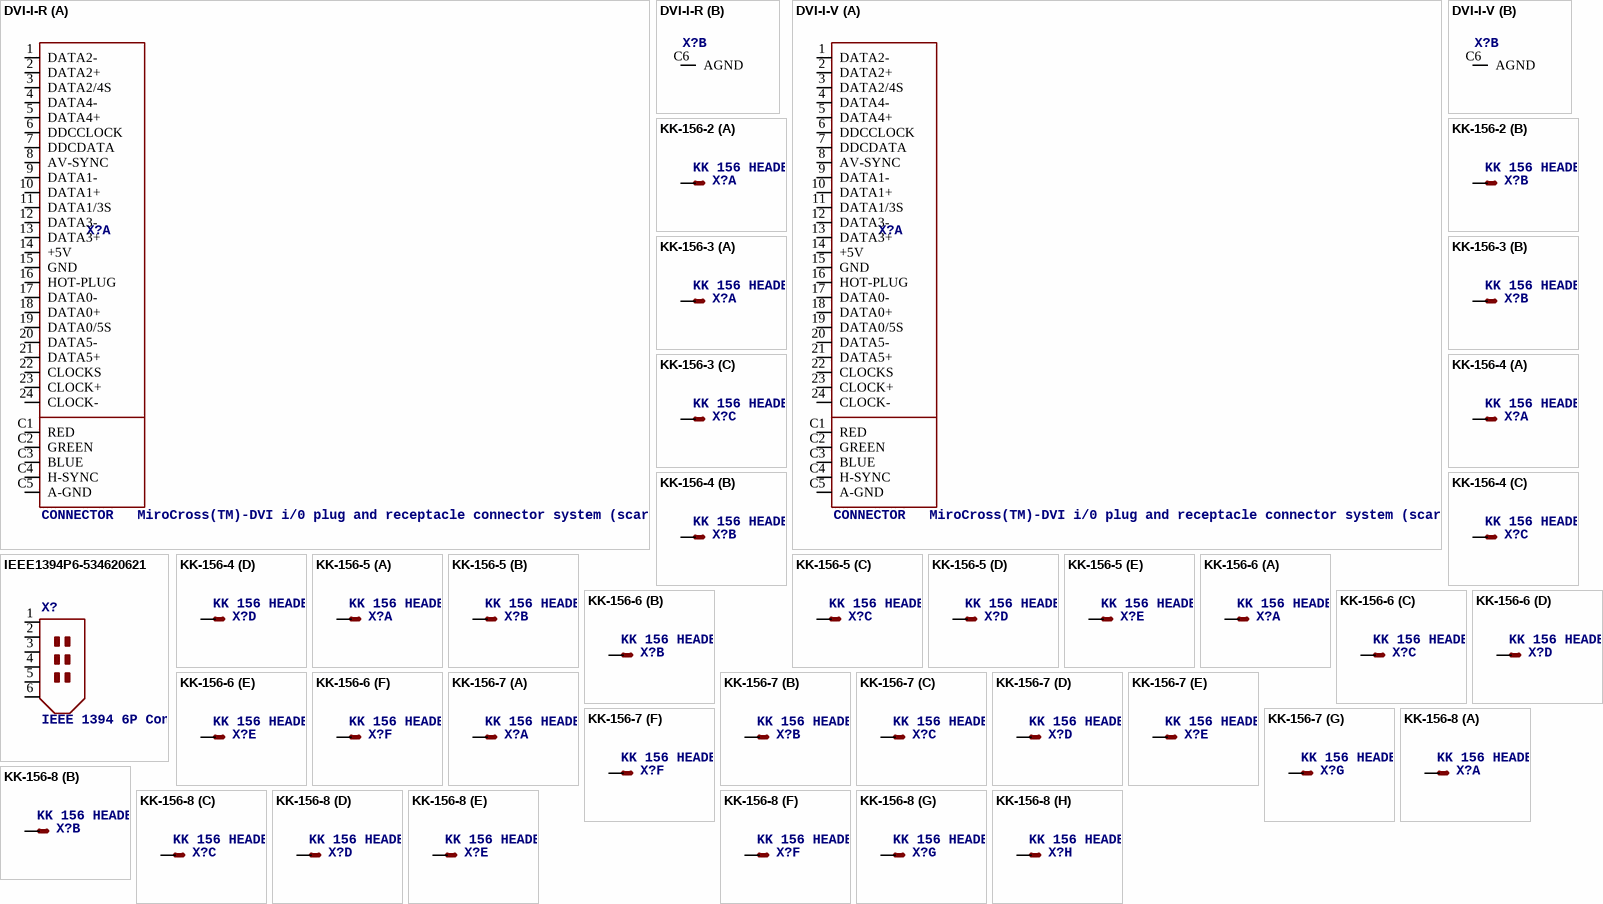
[diagram p129: symbols DVI-I-R to KK-156-8]

## DVI-I-R
designator X?, comment CONNECTOR   MiroCross(TM)-DVI i/0 plug and receptacle connector system (scart)
OC_FARNELL: unknown; OC_NEWARK: unknown
footprint DVI-I-R
part A pins: 1 DATA2-, 2 DATA2+, 3 DATA2/4S, 4 DATA4-, 5 DATA4+, 6 DDCCLOCK, 7 DDCDATA, 8 AV-SYNC, 9 DATA1-, 10 DATA1+, 11 DATA1/3S, 12 DATA3-, 13 DATA3+, 14 +5V (power), 15 GND (power), 16 HOT-PLUG, 17 DATA0-, 18 DATA0+, 19 DATA0/5S, 20 DATA5-, 21 DATA5+, 22 CLOCKS, 23 CLOCK+, 24 CLOCK-, C1 RED, C2 GREEN, C3 BLUE, C4 H-SYNC, C5 A-GND (power)
part B pins: C6 AGND (power)

## DVI-I-V
designator X?, comment CONNECTOR   MiroCross(TM)-DVI i/0 plug and receptacle connector system (scart)
OC_FARNELL: unknown; OC_NEWARK: unknown
footprint DVI-I-V
part A pins: 1 DATA2-, 2 DATA2+, 3 DATA2/4S, 4 DATA4-, 5 DATA4+, 6 DDCCLOCK, 7 DDCDATA, 8 AV-SYNC, 9 DATA1-, 10 DATA1+, 11 DATA1/3S, 12 DATA3-, 13 DATA3+, 14 +5V (power), 15 GND (power), 16 HOT-PLUG, 17 DATA0-, 18 DATA0+, 19 DATA0/5S, 20 DATA5-, 21 DATA5+, 22 CLOCKS, 23 CLOCK+, 24 CLOCK-, C1 RED, C2 GREEN, C3 BLUE, C4 H-SYNC, C5 A-GND (power)
part B pins: C6 AGND (power)

## IEEE1394P6-534620621
designator X?, comment IEEE 1394 6P Connector   Source: http://www.molex.com/pdm_docs/sd/534620621_sd.pdf
OC_FARNELL: unknown; OC_NEWARK: unknown
footprint 534620621_SD
pins: 1, 2, 3, 4, 5, 6

## KK-156-2
designator X?, comment KK 156 HEADER   Source: http://www.molex.com/pdm_docs/sd/026604100_sd.pdf
OC_FARNELL: unknown; OC_NEWARK: unknown
footprint KK-156-2
part A pins: 1 S
part B pins: 2 S

## KK-156-3
designator X?, comment KK 156 HEADER   Source: http://www.molex.com/pdm_docs/sd/026604100_sd.pdf
OC_FARNELL: unknown; OC_NEWARK: unknown
footprint KK-156-3
part A pins: 1 S
part B pins: 2 S
part C pins: 3 S

## KK-156-4
designator X?, comment KK 156 HEADER   Source: http://www.molex.com/pdm_docs/sd/026604100_sd.pdf
OC_FARNELL: unknown; OC_NEWARK: unknown
footprint KK-156-4
part A pins: 1 S
part B pins: 2 S
part C pins: 3 S
part D pins: 4 S

## KK-156-5
designator X?, comment KK 156 HEADER   Source: http://www.molex.com/pdm_docs/sd/026604100_sd.pdf
OC_FARNELL: unknown; OC_NEWARK: unknown
footprint KK-156-5
part A pins: 1 S
part B pins: 2 S
part C pins: 3 S
part D pins: 4 S
part E pins: 5 S

## KK-156-6
designator X?, comment KK 156 HEADER   Source: http://www.molex.com/pdm_docs/sd/026604100_sd.pdf
OC_FARNELL: unknown; OC_NEWARK: unknown
footprint KK-156-6
part A pins: 1 S
part B pins: 2 S
part C pins: 3 S
part D pins: 4 S
part E pins: 5 S
part F pins: 6 S

## KK-156-7
designator X?, comment KK 156 HEADER   Source: http://www.molex.com/pdm_docs/sd/026604100_sd.pdf
OC_FARNELL: unknown; OC_NEWARK: unknown
footprint KK-156-7
part A pins: 1 S
part B pins: 2 S
part C pins: 3 S
part D pins: 4 S
part E pins: 5 S
part F pins: 6 S
part G pins: 7 S

## KK-156-8
designator X?, comment KK 156 HEADER   Source: http://www.molex.com/pdm_docs/sd/026604100_sd.pdf
OC_FARNELL: unknown; OC_NEWARK: unknown
footprint KK-156-8
part A pins: 1 S
part B pins: 2 S
part C pins: 3 S
part D pins: 4 S
part E pins: 5 S
part F pins: 6 S
part G pins: 7 S
part H pins: 8 S

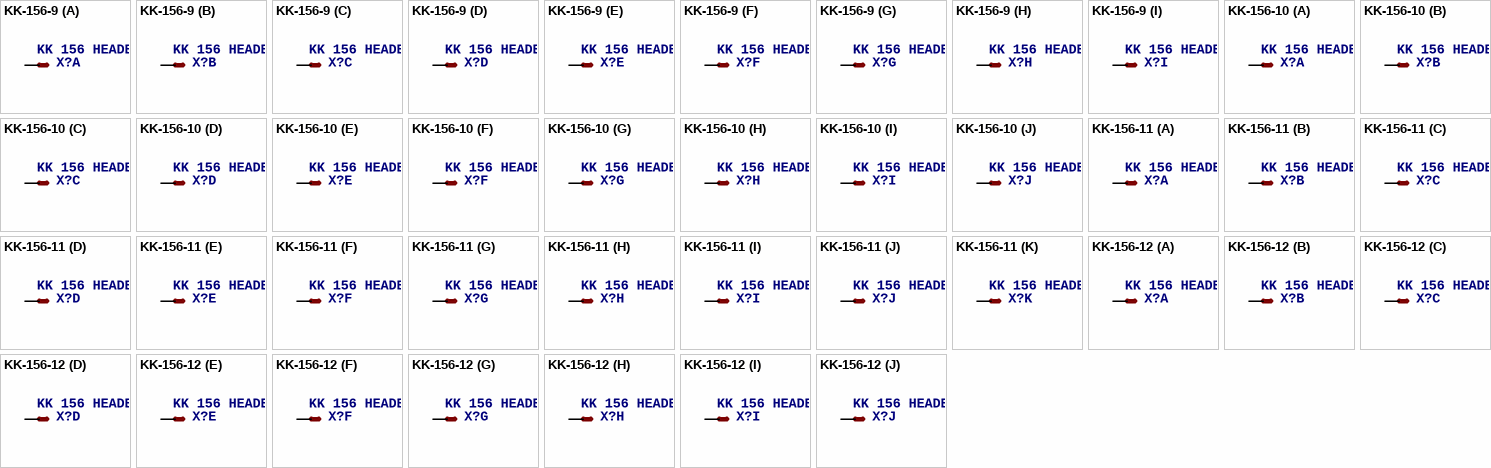
[diagram p130: symbols KK-156-9 to KK-156-12]

## KK-156-9
designator X?, comment KK 156 HEADER   Source: http://www.molex.com/pdm_docs/sd/026604100_sd.pdf
OC_FARNELL: unknown; OC_NEWARK: unknown
footprint KK-156-9
part A pins: 1 S
part B pins: 2 S
part C pins: 3 S
part D pins: 4 S
part E pins: 5 S
part F pins: 6 S
part G pins: 7 S
part H pins: 8 S
part I pins: 9 S

## KK-156-10
designator X?, comment KK 156 HEADER   Source: http://www.molex.com/pdm_docs/sd/026604100_sd.pdf
OC_FARNELL: unknown; OC_NEWARK: unknown
footprint KK-156-10
part A pins: 1 S
part B pins: 2 S
part C pins: 3 S
part D pins: 4 S
part E pins: 5 S
part F pins: 6 S
part G pins: 7 S
part H pins: 8 S
part I pins: 9 S
part J pins: 10 S

## KK-156-11
designator X?, comment KK 156 HEADER   Source: http://www.molex.com/pdm_docs/sd/026604100_sd.pdf
OC_FARNELL: unknown; OC_NEWARK: unknown
footprint KK-156-11
part A pins: 1 S
part B pins: 2 S
part C pins: 3 S
part D pins: 4 S
part E pins: 5 S
part F pins: 6 S
part G pins: 7 S
part H pins: 8 S
part I pins: 9 S
part J pins: 10 S
part K pins: 11 S

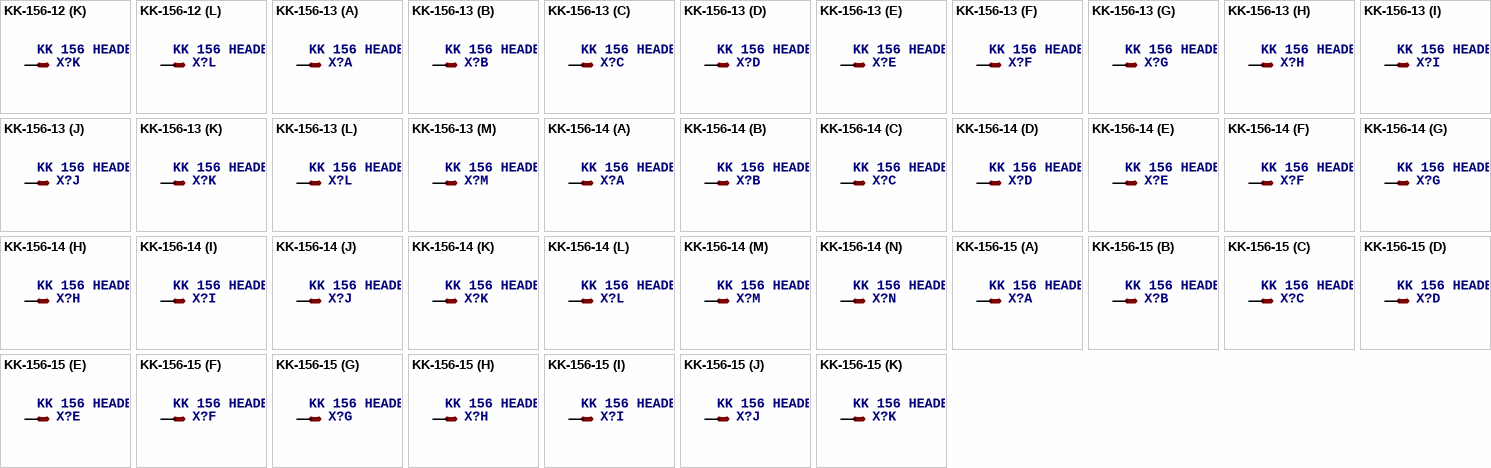
[diagram p131: symbols KK-156-12 to KK-156-15]

## KK-156-12
designator X?, comment KK 156 HEADER   Source: http://www.molex.com/pdm_docs/sd/026604100_sd.pdf
OC_FARNELL: unknown; OC_NEWARK: unknown
footprint KK-156-12
part A pins: 1 S
part B pins: 2 S
part C pins: 3 S
part D pins: 4 S
part E pins: 5 S
part F pins: 6 S
part G pins: 7 S
part H pins: 8 S
part I pins: 9 S
part J pins: 10 S
part K pins: 11 S
part L pins: 12 S

## KK-156-13
designator X?, comment KK 156 HEADER   Source: http://www.molex.com/pdm_docs/sd/026604100_sd.pdf
OC_FARNELL: unknown; OC_NEWARK: unknown
footprint KK-156-13
part A pins: 1 S
part B pins: 2 S
part C pins: 3 S
part D pins: 4 S
part E pins: 5 S
part F pins: 6 S
part G pins: 7 S
part H pins: 8 S
part I pins: 9 S
part J pins: 10 S
part K pins: 11 S
part L pins: 12 S
part M pins: 13 S

## KK-156-14
designator X?, comment KK 156 HEADER   Source: http://www.molex.com/pdm_docs/sd/026604100_sd.pdf
OC_FARNELL: unknown; OC_NEWARK: unknown
footprint KK-156-14
part A pins: 1 S
part B pins: 2 S
part C pins: 3 S
part D pins: 4 S
part E pins: 5 S
part F pins: 6 S
part G pins: 7 S
part H pins: 8 S
part I pins: 9 S
part J pins: 10 S
part K pins: 11 S
part L pins: 12 S
part M pins: 13 S
part N pins: 14 S

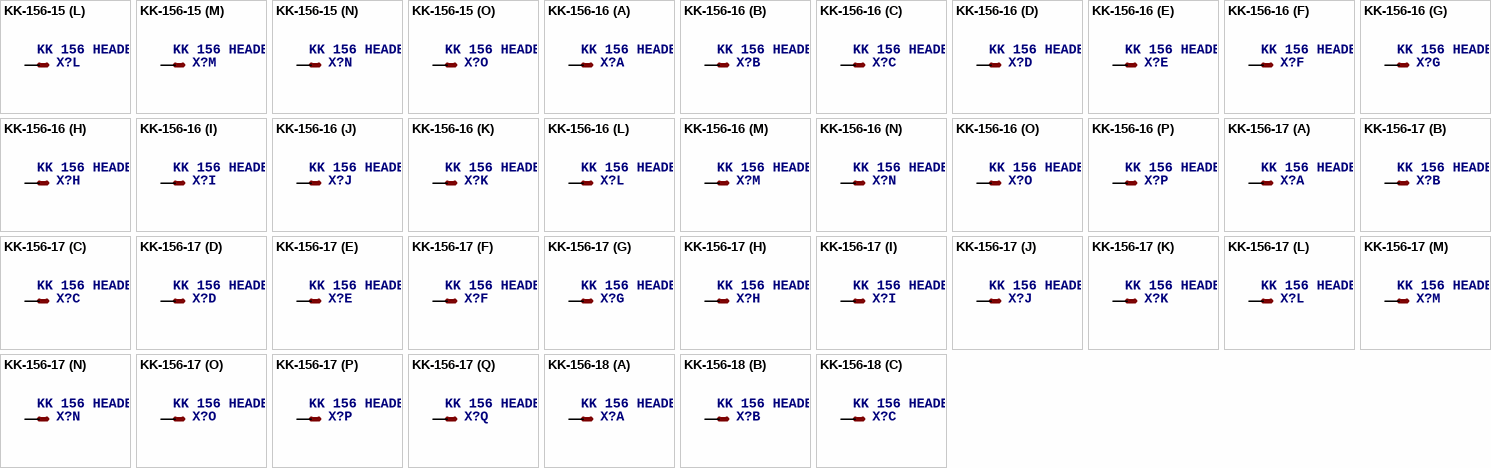
[diagram p132: symbols KK-156-15 to KK-156-18]

## KK-156-15
designator X?, comment KK 156 HEADER   Source: http://www.molex.com/pdm_docs/sd/026604100_sd.pdf
OC_FARNELL: unknown; OC_NEWARK: unknown
footprint KK-156-15
part A pins: 1 S
part B pins: 2 S
part C pins: 3 S
part D pins: 4 S
part E pins: 5 S
part F pins: 6 S
part G pins: 7 S
part H pins: 8 S
part I pins: 9 S
part J pins: 10 S
part K pins: 11 S
part L pins: 12 S
part M pins: 13 S
part N pins: 14 S
part O pins: 15 S

## KK-156-16
designator X?, comment KK 156 HEADER   Source: http://www.molex.com/pdm_docs/sd/026604100_sd.pdf
OC_FARNELL: unknown; OC_NEWARK: unknown
footprint KK-156-16
part A pins: 1 S
part B pins: 2 S
part C pins: 3 S
part D pins: 4 S
part E pins: 5 S
part F pins: 6 S
part G pins: 7 S
part H pins: 8 S
part I pins: 9 S
part J pins: 10 S
part K pins: 11 S
part L pins: 12 S
part M pins: 13 S
part N pins: 14 S
part O pins: 15 S
part P pins: 16 S

## KK-156-17
designator X?, comment KK 156 HEADER   Source: http://www.molex.com/pdm_docs/sd/026604100_sd.pdf
OC_FARNELL: unknown; OC_NEWARK: unknown
footprint KK-156-17
part A pins: 1 S
part B pins: 2 S
part C pins: 3 S
part D pins: 4 S
part E pins: 5 S
part F pins: 6 S
part G pins: 7 S
part H pins: 8 S
part I pins: 9 S
part J pins: 10 S
part K pins: 11 S
part L pins: 12 S
part M pins: 13 S
part N pins: 14 S
part O pins: 15 S
part P pins: 16 S
part Q pins: 17 S

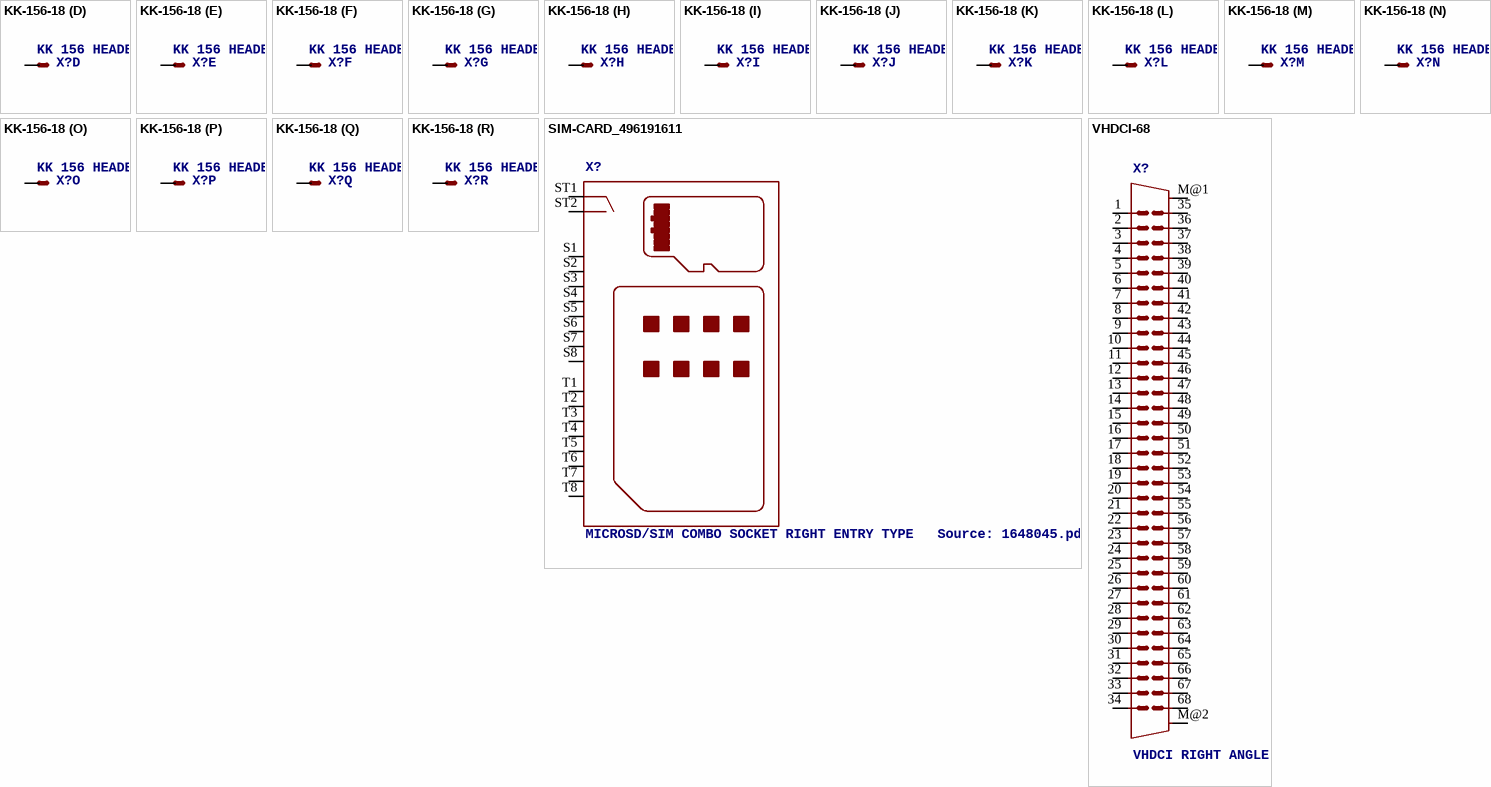
[diagram p133: symbols KK-156-18 to VHDCI-68]

## KK-156-18
designator X?, comment KK 156 HEADER   Source: http://www.molex.com/pdm_docs/sd/026604100_sd.pdf
OC_FARNELL: unknown; OC_NEWARK: unknown
footprint KK-156-18
part A pins: 1 S
part B pins: 2 S
part C pins: 3 S
part D pins: 4 S
part E pins: 5 S
part F pins: 6 S
part G pins: 7 S
part H pins: 8 S
part I pins: 9 S
part J pins: 10 S
part K pins: 11 S
part L pins: 12 S
part M pins: 13 S
part N pins: 14 S
part O pins: 15 S
part P pins: 16 S
part Q pins: 17 S
part R pins: 18 S

## SIM-CARD_496191611
designator X?, comment MICROSD/SIM COMBO SOCKET RIGHT ENTRY TYPE   Source: 1648045.pdf
footprint SIM-CARD_496191611
pins: S1, S2, S3, S4, S5, S6, S7, S8, ST1, ST2, T1, T2, T3, T4, T5, T6, T7, T8

## VHDCI-68
designator X?, comment VHDCI RIGHT ANGLE ASSEMBLY 68-Pin 73412-0110   86-Pin-VHDCI-Anschluss (rechtwinklig) Source:  Data sheet
footprint VHDCI-68
pins: 1, 2, 3, 4, 5, 6, 7, 8, 9, 10, 11, 12, 13, 14, 15, 16, 17, 18, 19, 20, 21, 22, 23, 24, 25, 26, 27, 28, 29, 30, 31, 32, 33, 34, 35, 36, 37, 38, 39, 40, 41, 42, 43, 44, 45, 46, 47, 48, 49, 50, 51, 52, 53, 54, 55, 56, 57, 58, 59, 60, 61, 62, 63, 64, 65, 66, 67, 68, M@1 S@1, M@2 S@2